# Altium integrated library Altera Arria V GZ.IntLib: 32 symbols (part 31 of 36)
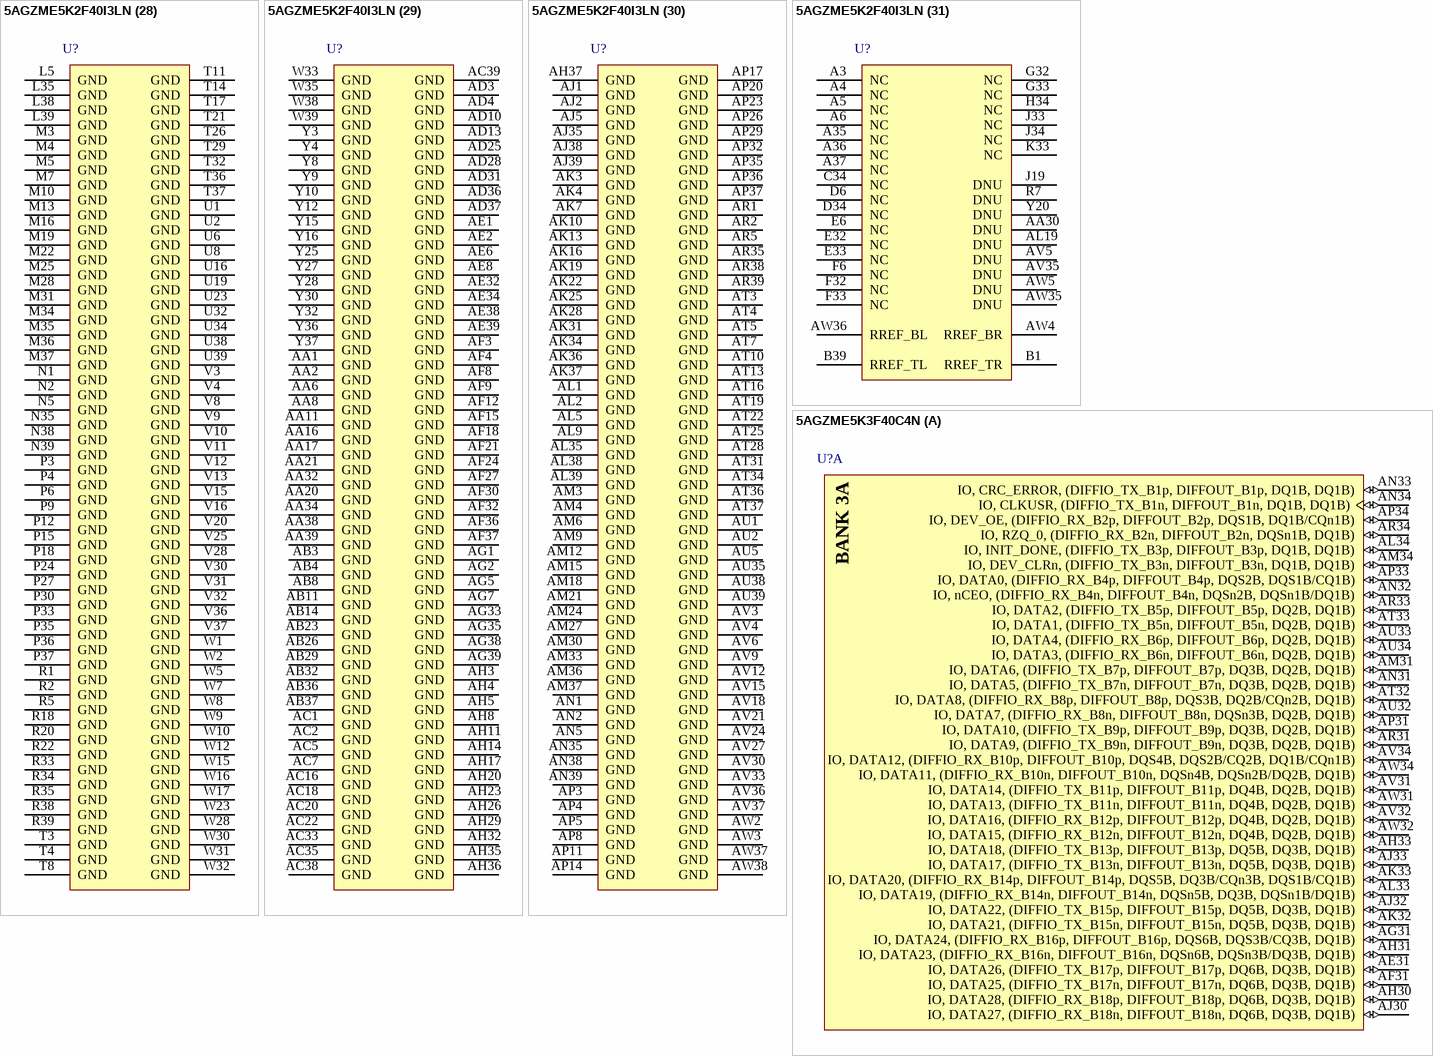
[diagram p227: symbols 5AGZME5K2F40I3LN to 5AGZME5K3F40C4N]
## 5AGZME5K2F40I3LN
designator U?
Arria V GZ Family FPGA, 0.82 to 0.88 V Supply, 674 I/O Pins, 24 PLLs, 1517-Pin FBGA, Speed Grade 3, Industrial Grade, RoHS Compliant; Manufacturer: Altera; Device Group: 5AGZME5; GPIO: 674; Logic Elements (LE) (K): 400; NexusDeviceID: 5AGZME5K2F40I3LN; Pb-Free: TRUE; Speed Grade: 3; DatasheetVersion: Rev. 3.5; PackageVersion: Rev. 2.0, 06/2013; PackageReference: FBGA1517_A-340_D1-330; PackageDescription: 1517-Pin FineLine Ball-Grid Array (FBGA), Body 40 x 40 mm, Pitch 1 mm; Supplier 1: Digi-Key; Supplier Part Number 1: 5AGZME5K2F40I3LN-ND; Supplier 2: Mouser; Supplier Part Number 2: 989-5AGZME5K2F40I3LN; RoHS: RoHS Compliant; Subcategory: Arria V GZ; Voltage Supply: 0.82 to 0.88 V; Mounting Technology: Surface Mount; Code_JEDEC: MS-034; PartNumber: 5AGZME5K2F40I3LN; ComponentLink1Description: Manufacturer URL; ComponentLink1URL: http://www.altera.com; ComponentLink2Description: Datasheet; ComponentLink2URL: http://www.altera.com/literature/hb/arria-v/av_51002.pdf; ComponentLink3Description: Package Specification; ComponentLink3URL: http://www.altera.com/devicepackaging/04R00439-01.pdf; ComponentLink4Description: Device Handbook URL; ComponentLink4URL: http://www.altera.com/literature/hb/arria-v/arriav_handbook.pdf; ComponentLink5Description: Device Overview URL; ComponentLink5URL: http://www.altera.com/literature/hb/arria-v/av_51001.pdf; ComponentLink6Description: Device Pin-Out URL; ComponentLink6URL: http://www.altera.com/literature/dp/arria-v/5AGZME5.xls; ComponentLink7Description: Product URL; ComponentLink7URL: http://www.buyaltera.com/scripts/partsearch.dll?Detail&name=5AGZME5K2F40I3LN-ND
footprint ALTR-FBGA1517_A-340_D1-330 (BGA, 1517-Balls, Body 40x40mm, Pitch 1mm)
part A pins: AE31 IO, DATA26, (DIFFIO_TX_B17p, DIFFOUT_B17p, DQ6B, DQ3B, DQ1B) (io), AF31 IO, DATA25, (DIFFIO_TX_B17n, DIFFOUT_B17n, DQ6B, DQ3B, DQ1B) (io), AG31 IO, DATA24, (DIFFIO_RX_B16p, DIFFOUT_B16p, DQS6B, DQS3B/CQ3B, DQ1B) (io), AH30 IO, DATA28, (DIFFIO_RX_B18p, DIFFOUT_B18p, DQ6B, DQ3B, DQ1B) (io), AH31 IO, DATA23, (DIFFIO_RX_B16n, DIFFOUT_B16n, DQSn6B, DQSn3B/DQ3B, DQ1B) (io), AH33 IO, DATA18, (DIFFIO_TX_B13p, DIFFOUT_B13p, DQ5B, DQ3B, DQ1B) (io), AJ30 IO, DATA27, (DIFFIO_RX_B18n, DIFFOUT_B18n, DQ6B, DQ3B, DQ1B) (io), AJ32 IO, DATA22, (DIFFIO_TX_B15p, DIFFOUT_B15p, DQ5B, DQ3B, DQ1B) (io), AJ33 IO, DATA17, (DIFFIO_TX_B13n, DIFFOUT_B13n, DQ5B, DQ3B, DQ1B) (io), AK32 IO, DATA21, (DIFFIO_TX_B15n, DIFFOUT_B15n, DQ5B, DQ3B, DQ1B) (io), AK33 IO, DATA20, (DIFFIO_RX_B14p, DIFFOUT_B14p, DQS5B, DQ3B/CQn3B, DQS1B/CQ1B) (io), AL33 IO, DATA19, (DIFFIO_RX_B14n, DIFFOUT_B14n, DQSn5B, DQ3B, DQSn1B/DQ1B) (io), AL34 IO, INIT_DONE, (DIFFIO_TX_B3p, DIFFOUT_B3p, DQ1B, DQ1B) (io), AM31 IO, DATA6, (DIFFIO_TX_B7p, DIFFOUT_B7p, DQ3B, DQ2B, DQ1B) (io), AM34 IO, DEV_CLRn, (DIFFIO_TX_B3n, DIFFOUT_B3n, DQ1B, DQ1B) (io), AN31 IO, DATA5, (DIFFIO_TX_B7n, DIFFOUT_B7n, DQ3B, DQ2B, DQ1B) (io), AN32 IO, nCEO, (DIFFIO_RX_B4n, DIFFOUT_B4n, DQSn2B, DQSn1B/DQ1B) (io), AN33 IO, CRC_ERROR, (DIFFIO_TX_B1p, DIFFOUT_B1p, DQ1B, DQ1B) (io), AN34 IO, CLKUSR, (DIFFIO_TX_B1n, DIFFOUT_B1n, DQ1B, DQ1B) (io), AP31 IO, DATA10, (DIFFIO_TX_B9p, DIFFOUT_B9p, DQ3B, DQ2B, DQ1B) (io), AP33 IO, DATA0, (DIFFIO_RX_B4p, DIFFOUT_B4p, DQS2B, DQS1B/CQ1B) (io), AP34 IO, DEV_OE, (DIFFIO_RX_B2p, DIFFOUT_B2p, DQS1B, DQ1B/CQn1B) (io), AR31 IO, DATA9, (DIFFIO_TX_B9n, DIFFOUT_B9n, DQ3B, DQ2B, DQ1B) (io), AR33 IO, DATA2, (DIFFIO_TX_B5p, DIFFOUT_B5p, DQ2B, DQ1B) (io), AR34 IO, RZQ_0, (DIFFIO_RX_B2n, DIFFOUT_B2n, DQSn1B, DQ1B) (io), AT32 IO, DATA8, (DIFFIO_RX_B8p, DIFFOUT_B8p, DQS3B, DQ2B/CQn2B, DQ1B) (io), AT33 IO, DATA1, (DIFFIO_TX_B5n, DIFFOUT_B5n, DQ2B, DQ1B) (io), AU32 IO, DATA7, (DIFFIO_RX_B8n, DIFFOUT_B8n, DQSn3B, DQ2B, DQ1B) (io), AU33 IO, DATA4, (DIFFIO_RX_B6p, DIFFOUT_B6p, DQ2B, DQ1B) (io), AU34 IO, DATA3, (DIFFIO_RX_B6n, DIFFOUT_B6n, DQ2B, DQ1B) (io), AV31 IO, DATA14, (DIFFIO_TX_B11p, DIFFOUT_B11p, DQ4B, DQ2B, DQ1B) (io), AV32 IO, DATA16, (DIFFIO_RX_B12p, DIFFOUT_B12p, DQ4B, DQ2B, DQ1B) (io), AV34 IO, DATA12, (DIFFIO_RX_B10p, DIFFOUT_B10p, DQS4B, DQS2B/CQ2B, DQ1B/CQn1B) (io), AW31 IO, DATA13, (DIFFIO_TX_B11n, DIFFOUT_B11n, DQ4B, DQ2B, DQ1B) (io), AW32 IO, DATA15, (DIFFIO_RX_B12n, DIFFOUT_B12n, DQ4B, DQ2B, DQ1B) (io), AW34 IO, DATA11, (DIFFIO_RX_B10n, DIFFOUT_B10n, DQSn4B, DQSn2B/DQ2B, DQ1B) (io)
part B pins: AA26 IO, (DIFFIO_TX_B37p, DIFFOUT_B37p, DQ13B, DQ7B, DQ3B, DQ1B) (io), AA27 IO, (DIFFIO_TX_B37n, DIFFOUT_B37n, DQ13B, DQ7B, DQ3B, DQ1B) (io), AA28 IO, (DIFFIO_RX_B38p, DIFFOUT_B38p, DQS13B, DQ7B/CQn7B, DQS3B/CQ3B, DQ1B) (io), AA29 IO, (DIFFIO_RX_B38n, DIFFOUT_B38n, DQSn13B, DQ7B, DQSn3B/DQ3B, DQ1B) (io), AB27 IO, (DIFFIO_TX_B39p, DIFFOUT_B39p, DQ13B, DQ7B, DQ3B, DQ1B) (io), AB28 IO, (DIFFIO_TX_B27p, DIFFOUT_B27p, DQ9B, DQ5B, DQ2B, DQ1B) (io), AB30 IO, FPLL_BL_CLKOUT2, FPLL_BL_FBp, FPLL_BL_FB1, (DIFFIO_RX_B26p, DIFFOUT_B26p, DQS9B, DQ5B/CQn5B, DQS2B/CQ2B, DQ1B) (io), AC27 IO, (DIFFIO_TX_B39n, DIFFOUT_B39n, DQ13B, DQ7B, DQ3B, DQ1B) (io), AC28 IO, nPERSTL0, (DIFFIO_TX_B27n, DIFFOUT_B27n, DQ9B, DQ5B, DQ2B, DQ1B) (io), AC30 IO, FPLL_BL_CLKOUT3, FPLL_BL_FBn, (DIFFIO_RX_B26n, DIFFOUT_B26n, DQSn9B, DQ5B, DQSn2B/DQ2B, DQ1B) (io), AD27 IO, (DIFFIO_RX_B40p, DIFFOUT_B40p, DQS14B, DQS7B/CQ7B, DQ3B, DQ1B) (io), AD30 IO, FPLL_BL_CLKOUT0, FPLL_BL_CLKOUTp, FPLL_BL_FB0, (DIFFIO_TX_B25p, DIFFOUT_B25p, DQ9B, DQ5B, DQ2B, DQ1B) (io), AE27 IO, (DIFFIO_RX_B40n, DIFFOUT_B40n, DQSn14B, DQSn7B/DQ7B, DQ3B, DQ1B) (io), AE29 IO, (DIFFIO_TX_B29n, DIFFOUT_B29n, DQ10B, DQ5B, DQ2B, DQ1B) (io), AE30 IO, FPLL_BL_CLKOUT1, FPLL_BL_CLKOUTn, (DIFFIO_TX_B25n, DIFFOUT_B25n, DQ9B, DQ5B, DQ2B, DQ1B) (io), AF28 IO, (DIFFIO_TX_B29p, DIFFOUT_B29p, DQ10B, DQ5B, DQ2B, DQ1B) (io), AF29 IO, CLK2p, (DIFFIO_RX_B28p, DIFFOUT_B28p, DQS10B, DQS5B/CQ5B, DQ2B, DQ1B/CQn1B) (io), AG27 IO, (DIFFIO_TX_B41p, DIFFOUT_B41p, DQ14B, DQ7B, DQ3B, DQ1B) (io), AG28 IO, CLK3p, (DIFFIO_RX_B30p, DIFFOUT_B30p, DQ10B, DQ5B, DQ2B, DQ1B) (io), AG30 IO, CLK2n, (DIFFIO_RX_B28n, DIFFOUT_B28n, DQSn10B, DQSn5B/DQ5B, DQ2B, DQ1B) (io), AH27 IO, (DIFFIO_TX_B41n, DIFFOUT_B41n, DQ14B, DQ7B, DQ3B, DQ1B) (io), AH28 IO, CLK3n, (DIFFIO_RX_B30n, DIFFOUT_B30n, DQ10B, DQ5B, DQ2B, DQ1B) (io), AJ27 IO, (DIFFIO_RX_B42p, DIFFOUT_B42p, DQ14B, DQ7B, DQ3B, DQ1B) (io), AJ29 IO, (DIFFIO_TX_B33n, DIFFOUT_B33n, DQ11B, DQ6B, DQ3B, DQ1B) (io), AK27 IO, (DIFFIO_RX_B42n, DIFFOUT_B42n, DQ14B, DQ7B, DQ3B, DQ1B) (io), AK29 IO, (DIFFIO_TX_B33p, DIFFOUT_B33p, DQ11B, DQ6B, DQ3B, DQ1B) (io), AK30 IO, (DIFFIO_TX_B31p, DIFFOUT_B31p, DQ11B, DQ6B, DQ3B, DQ1B) (io), AL27 IO, (DIFFIO_TX_B35p, DIFFOUT_B35p, DQ12B, DQ6B, DQ3B, DQ1B) (io), AL28 IO, (DIFFIO_TX_B35n, DIFFOUT_B35n, DQ12B, DQ6B, DQ3B, DQ1B) (io), AL29 IO, (DIFFIO_RX_B32p, DIFFOUT_B32p, DQS11B, DQ6B/CQn6B, DQ3B, DQS1B/CQ1B) (io), AL30 IO, (DIFFIO_TX_B31n, DIFFOUT_B31n, DQ11B, DQ6B, DQ3B, DQ1B) (io), AM28 IO, (DIFFIO_RX_B36p, DIFFOUT_B36p, DQ12B, DQ6B, DQ3B, DQ1B) (io), AM29 IO, (DIFFIO_RX_B32n, DIFFOUT_B32n, DQSn11B, DQ6B, DQ3B, DQSn1B/DQ1B) (io), AN28 IO, (DIFFIO_RX_B36n, DIFFOUT_B36n, DQ12B, DQ6B, DQ3B, DQ1B) (io), AN29 IO, PR_READY, (DIFFIO_TX_B21p, DIFFOUT_B21p, DQ7B, DQ4B, DQ2B, DQ1B) (io), AN30 IO, PR_REQUEST, (DIFFIO_TX_B21n, DIFFOUT_B21n, DQ7B, DQ4B, DQ2B, DQ1B) (io), AP28 IO, (DIFFIO_RX_B34p, DIFFOUT_B34p, DQS12B, DQS6B/CQ6B, DQ3B/CQn3B, DQ1B) (io), AP30 IO, DATA30, (DIFFIO_TX_B19p, DIFFOUT_B19p, DQ7B, DQ4B, DQ2B, DQ1B) (io), AR28 IO, (DIFFIO_RX_B34n, DIFFOUT_B34n, DQSn12B, DQSn6B/DQ6B, DQ3B, DQ1B) (io), AR30 IO, DATA29, (DIFFIO_TX_B19n, DIFFOUT_B19n, DQ7B, DQ4B, DQ2B, DQ1B) (io), AT29 IO, CvP_CONFDONE, (DIFFIO_TX_B23p, DIFFOUT_B23p, DQ8B, DQ4B, DQ2B, DQ1B) (io), AT30 IO, PR_DONE, (DIFFIO_RX_B20p, DIFFOUT_B20p, DQS7B, DQ4B/CQn4B, DQ2B, DQ1B) (io), AU29 IO, PR_ERROR, (DIFFIO_TX_B23n, DIFFOUT_B23n, DQ8B, DQ4B, DQ2B, DQ1B) (io), AU30 IO, DATA31, (DIFFIO_RX_B20n, DIFFOUT_B20n, DQSn7B, DQ4B, DQ2B, DQ1B) (io), AV28 IO, CLK1p, (DIFFIO_RX_B24p, DIFFOUT_B24p, DQ8B, DQ4B, DQ2B, DQ1B) (io), AV29 IO, CLK0p, (DIFFIO_RX_B22p, DIFFOUT_B22p, DQS8B, DQS4B/CQ4B, DQ2B/CQn2B, DQ1B) (io), AW28 IO, CLK1n, (DIFFIO_RX_B24n, DIFFOUT_B24n, DQ8B, DQ4B, DQ2B, DQ1B) (io), AW29 IO, CLK0n, (DIFFIO_RX_B22n, DIFFOUT_B22n, DQSn8B, DQSn4B/DQ4B, DQ2B, DQ1B) (io)
part C pins: AA25 IO, (DIFFIO_RX_B50n, DIFFOUT_B50n, DQSn17B, DQ9B, DQSn4B/DQ4B, DQ2B) (io), AB24 IO, (DIFFIO_TX_B61p, DIFFOUT_B61p, DQ21B, DQ11B, DQ5B, DQ2B) (io), AB25 IO, (DIFFIO_RX_B50p, DIFFOUT_B50p, DQS17B, DQ9B/CQn9B, DQS4B/CQ4B, DQ2B) (io), AC24 IO, (DIFFIO_TX_B61n, DIFFOUT_B61n, DQ21B, DQ11B, DQ5B, DQ2B) (io), AC25 IO, (DIFFIO_TX_B51p, DIFFOUT_B51p, DQ17B, DQ9B, DQ4B, DQ2B) (io), AC26 IO, (DIFFIO_TX_B51n, DIFFOUT_B51n, DQ17B, DQ9B, DQ4B, DQ2B) (io), AD24 IO, (DIFFIO_TX_B63p, DIFFOUT_B63p, DQ21B, DQ11B, DQ5B, DQ2B) (io), AD26 IO, (DIFFIO_TX_B49p, DIFFOUT_B49p, DQ17B, DQ9B, DQ4B, DQ2B) (io), AE24 IO, (DIFFIO_TX_B63n, DIFFOUT_B63n, DQ21B, DQ11B, DQ5B, DQ2B) (io), AE25 IO, (DIFFIO_RX_B62p, DIFFOUT_B62p, DQS21B, DQ11B/CQn11B, DQS5B/CQ5B, DQ2B) (io), AE26 IO, (DIFFIO_TX_B49n, DIFFOUT_B49n, DQ17B, DQ9B, DQ4B, DQ2B) (io), AF25 IO, (DIFFIO_RX_B62n, DIFFOUT_B62n, DQSn21B, DQ11B, DQSn5B/DQ5B, DQ2B) (io), AF26 IO, (DIFFIO_TX_B53p, DIFFOUT_B53p, DQ18B, DQ9B, DQ4B, DQ2B) (io), AG24 IO, (DIFFIO_RX_B64n, DIFFOUT_B64n, DQSn22B, DQSn11B/DQ11B, DQ5B, DQ2B) (io), AG25 IO, (DIFFIO_RX_B54p, DIFFOUT_B54p, DQ18B, DQ9B, DQ4B, DQ2B) (io), AG26 IO, (DIFFIO_TX_B53n, DIFFOUT_B53n, DQ18B, DQ9B, DQ4B, DQ2B) (io), AH24 IO, (DIFFIO_RX_B64p, DIFFOUT_B64p, DQS22B, DQS11B/CQ11B, DQ5B, DQ2B) (io), AH25 IO, (DIFFIO_RX_B54n, DIFFOUT_B54n, DQ18B, DQ9B, DQ4B, DQ2B) (io), AJ24 IO, (DIFFIO_TX_B65p, DIFFOUT_B65p, DQ22B, DQ11B, DQ5B, DQ2B) (io), AJ26 IO, (DIFFIO_RX_B52p, DIFFOUT_B52p, DQS18B, DQS9B/CQ9B, DQ4B, DQ2B/CQn2B) (io), AK24 IO, (DIFFIO_TX_B65n, DIFFOUT_B65n, DQ22B, DQ11B, DQ5B, DQ2B) (io), AK26 IO, (DIFFIO_RX_B52n, DIFFOUT_B52n, DQSn18B, DQSn9B/DQ9B, DQ4B, DQ2B) (io), AL24 IO, (DIFFIO_RX_B66n, DIFFOUT_B66n, DQ22B, DQ11B, DQ5B, DQ2B) (io), AL25 IO, (DIFFIO_RX_B66p, DIFFOUT_B66p, DQ22B, DQ11B, DQ5B, DQ2B) (io), AL26 IO, (DIFFIO_TX_B47p, DIFFOUT_B47p, DQ16B, DQ8B, DQ4B, DQ2B) (io), AM25 IO, (DIFFIO_TX_B59p, DIFFOUT_B59p, DQ20B, DQ10B, DQ5B, DQ2B) (io), AM26 IO, (DIFFIO_TX_B47n, DIFFOUT_B47n, DQ16B, DQ8B, DQ4B, DQ2B) (io), AN24 IO, (DIFFIO_RX_B60p, DIFFOUT_B60p, DQ20B, DQ10B, DQ5B, DQ2B) (io), AN25 IO, (DIFFIO_TX_B59n, DIFFOUT_B59n, DQ20B, DQ10B, DQ5B, DQ2B) (io), AN26 IO, (DIFFIO_RX_B48p, DIFFOUT_B48p, DQ16B, DQ8B, DQ4B, DQ2B) (io), AN27 IO, (DIFFIO_RX_B48n, DIFFOUT_B48n, DQ16B, DQ8B, DQ4B, DQ2B) (io), AP24 IO, (DIFFIO_RX_B60n, DIFFOUT_B60n, DQ20B, DQ10B, DQ5B, DQ2B) (io), AP25 IO, (DIFFIO_RX_B58p, DIFFOUT_B58p, DQS20B, DQS10B/CQ10B, DQ5B/CQn5B, DQ2B) (io), AP27 IO, (DIFFIO_RX_B46p, DIFFOUT_B46p, DQS16B, DQS8B/CQ8B, DQ4B/CQn4B, DQ2B) (io), AR24 IO, (DIFFIO_TX_B57p, DIFFOUT_B57p, DQ19B, DQ10B, DQ5B, DQ2B) (io), AR25 IO, (DIFFIO_RX_B58n, DIFFOUT_B58n, DQSn20B, DQSn10B/DQ10B, DQ5B, DQ2B) (io), AR27 IO, (DIFFIO_RX_B46n, DIFFOUT_B46n, DQSn16B, DQSn8B/DQ8B, DQ4B, DQ2B) (io), AT24 IO, (DIFFIO_TX_B57n, DIFFOUT_B57n, DQ19B, DQ10B, DQ5B, DQ2B) (io), AT26 IO, (DIFFIO_TX_B45p, DIFFOUT_B45p, DQ15B, DQ8B, DQ4B, DQ2B) (io), AT27 IO, (DIFFIO_TX_B43p, DIFFOUT_B43p, DQ15B, DQ8B, DQ4B, DQ2B) (io), AU24 IO, (DIFFIO_RX_B56p, DIFFOUT_B56p, DQS19B, DQ10B/CQn10B, DQ5B, DQS2B/CQ2B) (io), AU25 IO, (DIFFIO_RX_B56n, DIFFOUT_B56n, DQSn19B, DQ10B, DQ5B, DQSn2B/DQ2B) (io), AU26 IO, (DIFFIO_TX_B45n, DIFFOUT_B45n, DQ15B, DQ8B, DQ4B, DQ2B) (io), AU27 IO, (DIFFIO_TX_B43n, DIFFOUT_B43n, DQ15B, DQ8B, DQ4B, DQ2B) (io), AV25 IO, (DIFFIO_TX_B55p, DIFFOUT_B55p, DQ19B, DQ10B, DQ5B, DQ2B) (io), AV26 IO, (DIFFIO_RX_B44p, DIFFOUT_B44p, DQS15B, DQ8B/CQn8B, DQ4B, DQ2B) (io), AW25 IO, (DIFFIO_TX_B55n, DIFFOUT_B55n, DQ19B, DQ10B, DQ5B, DQ2B) (io), AW26 IO, (DIFFIO_RX_B44n, DIFFOUT_B44n, DQSn15B, DQ8B, DQ4B, DQ2B) (io)
part D pins: AD20 IO, (DIFFIO_TX_B85p, DIFFOUT_B85p, DQ29B, DQ15B, DQ7B, DQ3B) (io), AD21 IO, (DIFFIO_TX_B85n, DIFFOUT_B85n, DQ29B, DQ15B, DQ7B, DQ3B) (io), AD22 IO, (DIFFIO_TX_B75p, DIFFOUT_B75p, DQ25B, DQ13B, DQ6B, DQ3B) (io), AD23 IO, (DIFFIO_TX_B73p, DIFFOUT_B73p, DQ25B, DQ13B, DQ6B, DQ3B) (io), AE20 IO, (DIFFIO_TX_B87p, DIFFOUT_B87p, DQ29B, DQ15B, DQ7B, DQ3B) (io), AE21 IO, (DIFFIO_TX_B87n, DIFFOUT_B87n, DQ29B, DQ15B, DQ7B, DQ3B) (io), AE22 IO, (DIFFIO_TX_B75n, DIFFOUT_B75n, DQ25B, DQ13B, DQ6B, DQ3B) (io), AE23 IO, (DIFFIO_TX_B73n, DIFFOUT_B73n, DQ25B, DQ13B, DQ6B, DQ3B) (io), AF22 IO, (DIFFIO_TX_B77p, DIFFOUT_B77p, DQ26B, DQ13B, DQ6B, DQ3B) (io), AF23 IO, (DIFFIO_RX_B74p, DIFFOUT_B74p, DQS25B, DQ13B/CQn13B, DQS6B/CQ6B, DQ3B) (io), AG21 IO, (DIFFIO_RX_B86n, DIFFOUT_B86n, DQSn29B, DQ15B, DQSn7B/DQ7B, DQ3B) (io), AG22 IO, (DIFFIO_TX_B77n, DIFFOUT_B77n, DQ26B, DQ13B, DQ6B, DQ3B) (io), AG23 IO, (DIFFIO_RX_B74n, DIFFOUT_B74n, DQSn25B, DQ13B, DQSn6B/DQ6B, DQ3B) (io), AH21 IO, (DIFFIO_RX_B86p, DIFFOUT_B86p, DQS29B, DQ15B/CQn15B, DQS7B/CQ7B, DQ3B) (io), AH22 IO, CLK4p, (DIFFIO_RX_B76p, DIFFOUT_B76p, DQS26B, DQS13B/CQ13B, DQ6B, DQ3B/CQn3B) (io), AJ20 IO, (DIFFIO_TX_B89p, DIFFOUT_B89p, DQ30B, DQ15B, DQ7B, DQ3B) (io), AJ21 IO, (DIFFIO_TX_B89n, DIFFOUT_B89n, DQ30B, DQ15B, DQ7B, DQ3B) (io), AJ22 IO, CLK4n, (DIFFIO_RX_B76n, DIFFOUT_B76n, DQSn26B, DQSn13B/DQ13B, DQ6B, DQ3B) (io), AK21 IO, (DIFFIO_RX_B88p, DIFFOUT_B88p, DQS30B, DQS15B/CQ15B, DQ7B, DQ3B) (io), AK23 IO, CLK5p, (DIFFIO_RX_B78p, DIFFOUT_B78p, DQ26B, DQ13B, DQ6B, DQ3B) (io), AL20 IO, (DIFFIO_RX_B90p, DIFFOUT_B90p, DQ30B, DQ15B, DQ7B, DQ3B) (io), AL21 IO, (DIFFIO_RX_B90n, DIFFOUT_B90n, DQ30B, DQ15B, DQ7B, DQ3B) (io), AL22 IO, (DIFFIO_RX_B88n, DIFFOUT_B88n, DQSn30B, DQSn15B/DQ15B, DQ7B, DQ3B) (io), AL23 IO, CLK5n, (DIFFIO_RX_B78n, DIFFOUT_B78n, DQ26B, DQ13B, DQ6B, DQ3B) (io), AM20 IO, (DIFFIO_TX_B83n, DIFFOUT_B83n, DQ28B, DQ14B, DQ7B, DQ3B) (io), AM22 IO, (DIFFIO_TX_B71p, DIFFOUT_B71p, DQ24B, DQ12B, DQ6B, DQ3B) (io), AM23 IO, (DIFFIO_RX_B72p, DIFFOUT_B72p, DQ24B, DQ12B, DQ6B, DQ3B) (io), AN20 IO, (DIFFIO_TX_B83p, DIFFOUT_B83p, DQ28B, DQ14B, DQ7B, DQ3B) (io), AN21 IO, (DIFFIO_RX_B84p, DIFFOUT_B84p, DQ28B, DQ14B, DQ7B, DQ3B) (io), AN22 IO, (DIFFIO_TX_B71n, DIFFOUT_B71n, DQ24B, DQ12B, DQ6B, DQ3B) (io), AN23 IO, (DIFFIO_RX_B72n, DIFFOUT_B72n, DQ24B, DQ12B, DQ6B, DQ3B) (io), AP21 IO, (DIFFIO_RX_B84n, DIFFOUT_B84n, DQ28B, DQ14B, DQ7B, DQ3B) (io), AP22 IO, (DIFFIO_RX_B70p, DIFFOUT_B70p, DQS24B, DQS12B/CQ12B, DQ6B/CQn6B, DQ3B) (io), AR20 IO, (DIFFIO_RX_B82p, DIFFOUT_B82p, DQS28B, DQS14B/CQ14B, DQ7B/CQn7B, DQ3B) (io), AR21 IO, (DIFFIO_RX_B82n, DIFFOUT_B82n, DQSn28B, DQSn14B/DQ14B, DQ7B, DQ3B) (io), AR22 IO, (DIFFIO_RX_B70n, DIFFOUT_B70n, DQSn24B, DQSn12B/DQ12B, DQ6B, DQ3B) (io), AT20 IO, (DIFFIO_TX_B81p, DIFFOUT_B81p, DQ27B, DQ14B, DQ7B, DQ3B) (io), AT21 IO, (DIFFIO_RX_B80p, DIFFOUT_B80p, DQS27B, DQ14B/CQn14B, DQ7B, DQS3B/CQ3B) (io), AT23 IO, (DIFFIO_TX_B69p, DIFFOUT_B69p, DQ23B, DQ12B, DQ6B, DQ3B) (io), AU20 IO, (DIFFIO_TX_B81n, DIFFOUT_B81n, DQ27B, DQ14B, DQ7B, DQ3B) (io), AU21 IO, (DIFFIO_RX_B80n, DIFFOUT_B80n, DQSn27B, DQ14B, DQ7B, DQSn3B/DQ3B) (io), AU23 IO, (DIFFIO_TX_B69n, DIFFOUT_B69n, DQ23B, DQ12B, DQ6B, DQ3B) (io), AV20 IO, (DIFFIO_TX_B79p, DIFFOUT_B79p, DQ27B, DQ14B, DQ7B, DQ3B) (io), AV22 IO, (DIFFIO_RX_B68p, DIFFOUT_B68p, DQS23B, DQ12B/CQn12B, DQ6B, DQ3B) (io), AV23 IO, (DIFFIO_TX_B67p, DIFFOUT_B67p, DQ23B, DQ12B, DQ6B, DQ3B) (io), AW20 IO, (DIFFIO_TX_B79n, DIFFOUT_B79n, DQ27B, DQ14B, DQ7B, DQ3B) (io), AW22 IO, (DIFFIO_RX_B68n, DIFFOUT_B68n, DQSn23B, DQ12B, DQ6B, DQ3B) (io), AW23 IO, (DIFFIO_TX_B67n, DIFFOUT_B67n, DQ23B, DQ12B, DQ6B, DQ3B) (io)
part E pins: AJ6 IO, (DIFFIO_TX_B209p, DIFFOUT_B209p, DQ70B, DQ29B, DQ14B) (io), AJ7 IO, (DIFFIO_TX_B209n, DIFFOUT_B209n, DQ70B, DQ29B, DQ14B) (io), AK6 IO, RZQ_1, (DIFFIO_RX_B210p, DIFFOUT_B210p, DQ70B, DQ29B, DQ14B) (io), AL6 IO, (DIFFIO_RX_B210n, DIFFOUT_B210n, DQ70B, DQ29B, DQ14B) (io), AL7 IO, CLK8p, (DIFFIO_RX_B208p, DIFFOUT_B208p, DQS70B, DQS29B/CQ29B, DQ14B) (io), AM7 IO, CLK8n, (DIFFIO_RX_B208n, DIFFOUT_B208n, DQSn70B, DQSn29B/DQ29B, DQ14B) (io), AM8 IO, (DIFFIO_TX_B207n, DIFFOUT_B207n, DQ69B, DQ29B, DQ14B) (io), AN6 IO, CLK9p, (DIFFIO_RX_B206p, DIFFOUT_B206p, DQS69B, DQ29B/CQn29B, DQS14B/CQ14B) (io), AN7 IO, CLK9n, (DIFFIO_RX_B206n, DIFFOUT_B206n, DQSn69B, DQ29B, DQSn14B/DQ14B) (io), AN8 IO, (DIFFIO_TX_B207p, DIFFOUT_B207p, DQ69B, DQ29B, DQ14B) (io), AP6 IO, (DIFFIO_TX_B205p, DIFFOUT_B205p, DQ69B, DQ29B, DQ14B) (io), AP7 IO, FPLL_BR_CLKOUT2, FPLL_BR_FBp, FPLL_BR_FB1, (DIFFIO_RX_B204p, DIFFOUT_B204p, DQ68B, DQ28B, DQ14B) (io), AR6 IO, (DIFFIO_TX_B205n, DIFFOUT_B205n, DQ69B, DQ29B, DQ14B) (io), AR7 IO, FPLL_BR_CLKOUT3, FPLL_BR_FBn, (DIFFIO_RX_B204n, DIFFOUT_B204n, DQ68B, DQ28B, DQ14B) (io), AR8 IO, CLK10p, (DIFFIO_RX_B202p, DIFFOUT_B202p, DQS68B, DQS28B/CQ28B, DQ14B/CQn14B) (io), AT6 IO, FPLL_BR_CLKOUT0, FPLL_BR_CLKOUTp, FPLL_BR_FB0, (DIFFIO_TX_B203p, DIFFOUT_B203p, DQ68B, DQ28B, DQ14B) (io), AT8 IO, CLK10n, (DIFFIO_RX_B202n, DIFFOUT_B202n, DQSn68B, DQSn28B/DQ28B, DQ14B) (io), AU6 IO, FPLL_BR_CLKOUT1, FPLL_BR_CLKOUTn, (DIFFIO_TX_B203n, DIFFOUT_B203n, DQ68B, DQ28B, DQ14B) (io), AU7 IO, (DIFFIO_TX_B201p, DIFFOUT_B201p, DQ67B, DQ28B, DQ14B) (io), AU8 IO, (DIFFIO_TX_B201n, DIFFOUT_B201n, DQ67B, DQ28B, DQ14B) (io), AV7 IO, CLK11p, (DIFFIO_RX_B200p, DIFFOUT_B200p, DQS67B, DQ28B/CQn28B, DQ14B) (io), AV8 IO, (DIFFIO_TX_B199p, DIFFOUT_B199p, DQ67B, DQ28B, DQ14B) (io), AW7 IO, CLK11n, (DIFFIO_RX_B200n, DIFFOUT_B200n, DQSn67B, DQ28B, DQ14B) (io), AW8 IO, (DIFFIO_TX_B199n, DIFFOUT_B199n, DQ67B, DQ28B, DQ14B) (io)
part F pins: AB9 IO, (DIFFIO_TX_B187p, DIFFOUT_B187p, DQ63B, DQ26B, DQ13B, DQ6B) (io), AB10 IO, (DIFFIO_RX_B188p, DIFFOUT_B188p, DQS63B, DQ26B/CQn26B, DQ13B, DQS6B/CQ6B) (io), AB12 IO, (DIFFIO_TX_B175p, DIFFOUT_B175p, DQ59B, DQ24B, DQ12B, DQ6B) (io), AC9 IO, (DIFFIO_TX_B187n, DIFFOUT_B187n, DQ63B, DQ26B, DQ13B, DQ6B) (io), AC10 IO, (DIFFIO_RX_B188n, DIFFOUT_B188n, DQSn63B, DQ26B, DQ13B, DQSn6B/DQ6B) (io), AC12 IO, (DIFFIO_TX_B175n, DIFFOUT_B175n, DQ59B, DQ24B, DQ12B, DQ6B) (io), AD9 IO, (DIFFIO_TX_B189p, DIFFOUT_B189p, DQ63B, DQ26B, DQ13B, DQ6B) (io), AD12 IO, (DIFFIO_RX_B176p, DIFFOUT_B176p, DQS59B, DQ24B/CQn24B, DQ12B, DQ6B) (io), AE9 IO, (DIFFIO_TX_B189n, DIFFOUT_B189n, DQ63B, DQ26B, DQ13B, DQ6B) (io), AE10 IO, (DIFFIO_TX_B177p, DIFFOUT_B177p, DQ59B, DQ24B, DQ12B, DQ6B) (io), AE11 IO, (DIFFIO_TX_B177n, DIFFOUT_B177n, DQ59B, DQ24B, DQ12B, DQ6B) (io), AE12 IO, (DIFFIO_RX_B176n, DIFFOUT_B176n, DQSn59B, DQ24B, DQ12B, DQ6B) (io), AF10 IO, (DIFFIO_RX_B190p, DIFFOUT_B190p, DQS64B, DQS26B/CQ26B, DQ13B/CQn13B, DQ6B) (io), AF11 IO, (DIFFIO_TX_B179n, DIFFOUT_B179n, DQ60B, DQ24B, DQ12B, DQ6B) (io), AG9 IO, (DIFFIO_TX_B191p, DIFFOUT_B191p, DQ64B, DQ26B, DQ13B, DQ6B) (io), AG10 IO, (DIFFIO_RX_B190n, DIFFOUT_B190n, DQSn64B, DQSn26B/DQ26B, DQ13B, DQ6B) (io), AG12 IO, (DIFFIO_TX_B179p, DIFFOUT_B179p, DQ60B, DQ24B, DQ12B, DQ6B) (io), AH9 IO, (DIFFIO_TX_B191n, DIFFOUT_B191n, DQ64B, DQ26B, DQ13B, DQ6B) (io), AH10 IO, (DIFFIO_RX_B192p, DIFFOUT_B192p, DQ64B, DQ26B, DQ13B, DQ6B) (io), AH12 IO, (DIFFIO_RX_B178p, DIFFOUT_B178p, DQS60B, DQS24B/CQ24B, DQ12B/CQn12B, DQ6B) (io), AJ10 IO, (DIFFIO_RX_B192n, DIFFOUT_B192n, DQ64B, DQ26B, DQ13B, DQ6B) (io), AJ12 IO, (DIFFIO_RX_B178n, DIFFOUT_B178n, DQSn60B, DQSn24B/DQ24B, DQ12B, DQ6B) (io), AK11 IO, (DIFFIO_TX_B181p, DIFFOUT_B181p, DQ61B, DQ25B, DQ12B, DQ6B) (io), AK12 IO, (DIFFIO_RX_B180n, DIFFOUT_B180n, DQ60B, DQ24B, DQ12B, DQ6B) (io), AL10 IO, (DIFFIO_TX_B193p, DIFFOUT_B193p, DQ65B, DQ27B, DQ13B, DQ6B) (io), AL11 IO, (DIFFIO_TX_B181n, DIFFOUT_B181n, DQ61B, DQ25B, DQ12B, DQ6B) (io), AL12 IO, (DIFFIO_RX_B180p, DIFFOUT_B180p, DQ60B, DQ24B, DQ12B, DQ6B) (io), AM10 IO, (DIFFIO_TX_B193n, DIFFOUT_B193n, DQ65B, DQ27B, DQ13B, DQ6B) (io), AM11 IO, (DIFFIO_TX_B183p, DIFFOUT_B183p, DQ61B, DQ25B, DQ12B, DQ6B) (io), AN9 IO, (DIFFIO_TX_B195p, DIFFOUT_B195p, DQ65B, DQ27B, DQ13B, DQ6B) (io), AN10 IO, (DIFFIO_RX_B194p, DIFFOUT_B194p, DQS65B, DQ27B/CQn27B, DQS13B/CQ13B, DQ6B) (io), AN11 IO, (DIFFIO_TX_B183n, DIFFOUT_B183n, DQ61B, DQ25B, DQ12B, DQ6B) (io), AP9 IO, (DIFFIO_TX_B195n, DIFFOUT_B195n, DQ65B, DQ27B, DQ13B, DQ6B) (io), AP10 IO, (DIFFIO_RX_B194n, DIFFOUT_B194n, DQSn65B, DQ27B, DQSn13B/DQ13B, DQ6B) (io), AR9 IO, (DIFFIO_TX_B197p, DIFFOUT_B197p, DQ66B, DQ27B, DQ13B, DQ6B) (io), AR11 IO, (DIFFIO_RX_B182p, DIFFOUT_B182p, DQS61B, DQ25B/CQn25B, DQS12B/CQ12B, DQ6B) (io), AR12 IO, (DIFFIO_RX_B182n, DIFFOUT_B182n, DQSn61B, DQ25B, DQSn12B/DQ12B, DQ6B) (io), AT9 IO, (DIFFIO_TX_B197n, DIFFOUT_B197n, DQ66B, DQ27B, DQ13B, DQ6B) (io), AT11 IO, (DIFFIO_TX_B185p, DIFFOUT_B185p, DQ62B, DQ25B, DQ12B, DQ6B) (io), AT12 IO, (DIFFIO_RX_B184p, DIFFOUT_B184p, DQS62B, DQS25B/CQ25B, DQ12B, DQ6B/CQn6B) (io), AU9 IO, (DIFFIO_RX_B198p, DIFFOUT_B198p, DQ66B, DQ27B, DQ13B, DQ6B) (io), AU10 IO, (DIFFIO_RX_B198n, DIFFOUT_B198n, DQ66B, DQ27B, DQ13B, DQ6B) (io), AU11 IO, (DIFFIO_TX_B185n, DIFFOUT_B185n, DQ62B, DQ25B, DQ12B, DQ6B) (io), AU12 IO, (DIFFIO_RX_B184n, DIFFOUT_B184n, DQSn62B, DQSn25B/DQ25B, DQ12B, DQ6B) (io), AV10 IO, (DIFFIO_RX_B196p, DIFFOUT_B196p, DQS66B, DQS27B/CQ27B, DQ13B, DQ6B) (io), AV11 IO, (DIFFIO_RX_B186p, DIFFOUT_B186p, DQ62B, DQ25B, DQ12B, DQ6B) (io), AW10 IO, (DIFFIO_RX_B196n, DIFFOUT_B196n, DQSn66B, DQSn27B/DQ27B, DQ13B, DQ6B) (io), AW11 IO, (DIFFIO_RX_B186n, DIFFOUT_B186n, DQ62B, DQ25B, DQ12B, DQ6B) (io)
part G pins: AA12 IO, (DIFFIO_TX_B165p, DIFFOUT_B165p, DQ55B, DQ22B, DQ11B, DQ5B) (io), AA13 IO, (DIFFIO_TX_B165n, DIFFOUT_B165n, DQ55B, DQ22B, DQ11B, DQ5B) (io), AA14 IO, (DIFFIO_TX_B153p, DIFFOUT_B153p, DQ51B, DQ20B, DQ10B, DQ5B) (io), AA15 IO, (DIFFIO_TX_B153n, DIFFOUT_B153n, DQ51B, DQ20B, DQ10B, DQ5B) (io), AB13 IO, (DIFFIO_TX_B163p, DIFFOUT_B163p, DQ55B, DQ22B, DQ11B, DQ5B) (io), AB15 IO, (DIFFIO_TX_B151n, DIFFOUT_B151n, DQ51B, DQ20B, DQ10B, DQ5B) (io), AB16 IO, (DIFFIO_TX_B151p, DIFFOUT_B151p, DQ51B, DQ20B, DQ10B, DQ5B) (io), AC13 IO, (DIFFIO_TX_B163n, DIFFOUT_B163n, DQ55B, DQ22B, DQ11B, DQ5B) (io), AC14 IO, (DIFFIO_RX_B164p, DIFFOUT_B164p, DQS55B, DQ22B/CQn22B, DQ11B, DQS5B/CQ5B) (io), AC15 IO, (DIFFIO_RX_B152p, DIFFOUT_B152p, DQS51B, DQ20B/CQn20B, DQ10B, DQ5B) (io), AD14 IO, (DIFFIO_RX_B164n, DIFFOUT_B164n, DQSn55B, DQ22B, DQ11B, DQSn5B/DQ5B) (io), AD15 IO, (DIFFIO_RX_B154p, DIFFOUT_B154p, DQS52B, DQS20B/CQ20B, DQ10B/CQn10B, DQ5B) (io), AD16 IO, (DIFFIO_RX_B152n, DIFFOUT_B152n, DQSn51B, DQ20B, DQ10B, DQ5B) (io), AE14 IO, (DIFFIO_RX_B166p, DIFFOUT_B166p, DQS56B, DQS22B/CQ22B, DQ11B/CQn11B, DQ5B) (io), AE15 IO, (DIFFIO_RX_B154n, DIFFOUT_B154n, DQSn52B, DQSn20B/DQ20B, DQ10B, DQ5B) (io), AF13 IO, (DIFFIO_RX_B168p, DIFFOUT_B168p, DQ56B, DQ22B, DQ11B, DQ5B) (io), AF14 IO, (DIFFIO_RX_B166n, DIFFOUT_B166n, DQSn56B, DQSn22B/DQ22B, DQ11B, DQ5B) (io), AG13 IO, (DIFFIO_RX_B168n, DIFFOUT_B168n, DQ56B, DQ22B, DQ11B, DQ5B) (io), AG14 IO, (DIFFIO_RX_B156n, DIFFOUT_B156n, DQ52B, DQ20B, DQ10B, DQ5B) (io), AG15 IO, (DIFFIO_RX_B156p, DIFFOUT_B156p, DQ52B, DQ20B, DQ10B, DQ5B) (io), AH13 IO, (DIFFIO_TX_B167p, DIFFOUT_B167p, DQ56B, DQ22B, DQ11B, DQ5B) (io), AH15 IO, (DIFFIO_TX_B155p, DIFFOUT_B155p, DQ52B, DQ20B, DQ10B, DQ5B) (io), AJ13 IO, (DIFFIO_TX_B167n, DIFFOUT_B167n, DQ56B, DQ22B, DQ11B, DQ5B) (io), AJ15 IO, (DIFFIO_TX_B155n, DIFFOUT_B155n, DQ52B, DQ20B, DQ10B, DQ5B) (io), AK14 IO, (DIFFIO_RX_B158p, DIFFOUT_B158p, DQS53B, DQ21B/CQn21B, DQS10B/CQ10B, DQ5B) (io), AK15 IO, (DIFFIO_TX_B157p, DIFFOUT_B157p, DQ53B, DQ21B, DQ10B, DQ5B) (io), AL13 IO, (DIFFIO_TX_B169p, DIFFOUT_B169p, DQ57B, DQ23B, DQ11B, DQ5B) (io), AL14 IO, (DIFFIO_RX_B158n, DIFFOUT_B158n, DQSn53B, DQ21B, DQSn10B/DQ10B, DQ5B) (io), AL15 IO, (DIFFIO_TX_B157n, DIFFOUT_B157n, DQ53B, DQ21B, DQ10B, DQ5B) (io), AM13 IO, (DIFFIO_TX_B169n, DIFFOUT_B169n, DQ57B, DQ23B, DQ11B, DQ5B) (io), AM14 IO, (DIFFIO_TX_B159p, DIFFOUT_B159p, DQ53B, DQ21B, DQ10B, DQ5B) (io), AN12 IO, (DIFFIO_RX_B170p, DIFFOUT_B170p, DQS57B, DQ23B/CQn23B, DQS11B/CQ11B, DQ5B) (io), AN13 IO, (DIFFIO_TX_B171p, DIFFOUT_B171p, DQ57B, DQ23B, DQ11B, DQ5B) (io), AN14 IO, (DIFFIO_TX_B159n, DIFFOUT_B159n, DQ53B, DQ21B, DQ10B, DQ5B) (io), AN15 IO, (DIFFIO_RX_B160p, DIFFOUT_B160p, DQS54B, DQS21B/CQ21B, DQ10B, DQ5B/CQn5B) (io), AP12 IO, (DIFFIO_RX_B170n, DIFFOUT_B170n, DQSn57B, DQ23B, DQSn11B/DQ11B, DQ5B) (io), AP13 IO, (DIFFIO_TX_B171n, DIFFOUT_B171n, DQ57B, DQ23B, DQ11B, DQ5B) (io), AP15 IO, (DIFFIO_RX_B160n, DIFFOUT_B160n, DQSn54B, DQSn21B/DQ21B, DQ10B, DQ5B) (io), AR14 IO, (DIFFIO_TX_B161p, DIFFOUT_B161p, DQ54B, DQ21B, DQ10B, DQ5B) (io), AR15 IO, (DIFFIO_TX_B161n, DIFFOUT_B161n, DQ54B, DQ21B, DQ10B, DQ5B) (io), AT14 IO, (DIFFIO_RX_B172p, DIFFOUT_B172p, DQS58B, DQS23B/CQ23B, DQ11B, DQ5B) (io), AT15 IO, (DIFFIO_RX_B162p, DIFFOUT_B162p, DQ54B, DQ21B, DQ10B, DQ5B) (io), AU14 IO, (DIFFIO_RX_B172n, DIFFOUT_B172n, DQSn58B, DQSn23B/DQ23B, DQ11B, DQ5B) (io), AU15 IO, (DIFFIO_RX_B162n, DIFFOUT_B162n, DQ54B, DQ21B, DQ10B, DQ5B) (io), AV13 IO, (DIFFIO_RX_B174p, DIFFOUT_B174p, DQ58B, DQ23B, DQ11B, DQ5B) (io), AV14 IO, (DIFFIO_TX_B173p, DIFFOUT_B173p, DQ58B, DQ23B, DQ11B, DQ5B) (io), AW13 IO, (DIFFIO_RX_B174n, DIFFOUT_B174n, DQ58B, DQ23B, DQ11B, DQ5B) (io), AW14 IO, (DIFFIO_TX_B173n, DIFFOUT_B173n, DQ58B, DQ23B, DQ11B, DQ5B) (io)
part H pins: AD17 IO, (DIFFIO_RX_B132n, DIFFOUT_B132n, DQ44B, DQ16B, DQ8B, DQ4B) (io), AD18 IO, (DIFFIO_RX_B132p, DIFFOUT_B132p, DQ44B, DQ16B, DQ8B, DQ4B) (io), AE16 IO, CLK7n, (DIFFIO_RX_B144n, DIFFOUT_B144n, DQ48B, DQ18B, DQ9B, DQ4B) (io), AE17 IO, CLK7p, (DIFFIO_RX_B144p, DIFFOUT_B144p, DQ48B, DQ18B, DQ9B, DQ4B) (io), AE18 IO, (DIFFIO_TX_B131p, DIFFOUT_B131p, DQ44B, DQ16B, DQ8B, DQ4B) (io), AE19 IO, (DIFFIO_TX_B131n, DIFFOUT_B131n, DQ44B, DQ16B, DQ8B, DQ4B) (io), AF16 IO, (DIFFIO_TX_B143p, DIFFOUT_B143p, DQ48B, DQ18B, DQ9B, DQ4B) (io), AF17 IO, CLK6p, (DIFFIO_RX_B142p, DIFFOUT_B142p, DQS48B, DQS18B/CQ18B, DQ9B/CQn9B, DQ4B) (io), AF19 IO, (DIFFIO_RX_B130p, DIFFOUT_B130p, DQS44B, DQS16B/CQ16B, DQ8B/CQn8B, DQ4B) (io), AG16 IO, (DIFFIO_TX_B143n, DIFFOUT_B143n, DQ48B, DQ18B, DQ9B, DQ4B) (io), AG17 IO, CLK6n, (DIFFIO_RX_B142n, DIFFOUT_B142n, DQSn48B, DQSn18B/DQ18B, DQ9B, DQ4B) (io), AG18 IO, (DIFFIO_RX_B130n, DIFFOUT_B130n, DQSn44B, DQSn16B/DQ16B, DQ8B, DQ4B) (io), AG19 IO, (DIFFIO_TX_B127p, DIFFOUT_B127p, DQ43B, DQ16B, DQ8B, DQ4B) (io), AH16 IO, FPLL_BC_CLKOUT0, FPLL_BC_CLKOUTp, FPLL_BC_FB0, (DIFFIO_TX_B139p, DIFFOUT_B139p, DQ47B, DQ18B, DQ9B, DQ4B) (io), AH18 IO, (DIFFIO_TX_B129p, DIFFOUT_B129p, DQ43B, DQ16B, DQ8B, DQ4B) (io), AH19 IO, (DIFFIO_TX_B127n, DIFFOUT_B127n, DQ43B, DQ16B, DQ8B, DQ4B) (io), AJ17 IO, FPLL_BC_CLKOUT1, FPLL_BC_CLKOUTn, (DIFFIO_TX_B139n, DIFFOUT_B139n, DQ47B, DQ18B, DQ9B, DQ4B) (io), AJ18 IO, (DIFFIO_TX_B129n, DIFFOUT_B129n, DQ43B, DQ16B, DQ8B, DQ4B) (io), AJ19 IO, (DIFFIO_RX_B128p, DIFFOUT_B128p, DQS43B, DQ16B/CQn16B, DQ8B, DQ4B) (io), AK17 IO, FPLL_BC_CLKOUT2, FPLL_BC_FBp, FPLL_BC_FB1, (DIFFIO_RX_B140p, DIFFOUT_B140p, DQS47B, DQ18B/CQn18B, DQ9B, DQS4B/CQ4B) (io), AK18 IO, (DIFFIO_RX_B128n, DIFFOUT_B128n, DQSn43B, DQ16B, DQ8B, DQ4B) (io), AL16 IO, (DIFFIO_TX_B141p, DIFFOUT_B141p, DQ47B, DQ18B, DQ9B, DQ4B) (io), AL17 IO, FPLL_BC_CLKOUT3, FPLL_BC_FBn, (DIFFIO_RX_B140n, DIFFOUT_B140n, DQSn47B, DQ18B, DQ9B, DQSn4B/DQ4B) (io), AL18 IO, (DIFFIO_TX_B133p, DIFFOUT_B133p, DQ45B, DQ17B, DQ8B, DQ4B) (io), AM16 IO, (DIFFIO_TX_B141n, DIFFOUT_B141n, DQ47B, DQ18B, DQ9B, DQ4B) (io), AM17 IO, (DIFFIO_TX_B145p, DIFFOUT_B145p, DQ49B, DQ19B, DQ9B, DQ4B) (io), AM19 IO, (DIFFIO_TX_B133n, DIFFOUT_B133n, DQ45B, DQ17B, DQ8B, DQ4B) (io), AN16 IO, (DIFFIO_RX_B146p, DIFFOUT_B146p, DQS49B, DQ19B/CQn19B, DQS9B/CQ9B, DQ4B) (io), AN17 IO, (DIFFIO_TX_B145n, DIFFOUT_B145n, DQ49B, DQ19B, DQ9B, DQ4B) (io), AN18 IO, (DIFFIO_RX_B134n, DIFFOUT_B134n, DQSn45B, DQ17B, DQSn8B/DQ8B, DQ4B) (io), AN19 IO, (DIFFIO_RX_B134p, DIFFOUT_B134p, DQS45B, DQ17B/CQn17B, DQS8B/CQ8B, DQ4B) (io), AP16 IO, (DIFFIO_RX_B146n, DIFFOUT_B146n, DQSn49B, DQ19B, DQSn9B/DQ9B, DQ4B) (io), AP18 IO, (DIFFIO_TX_B135p, DIFFOUT_B135p, DQ45B, DQ17B, DQ8B, DQ4B) (io), AP19 IO, (DIFFIO_RX_B136p, DIFFOUT_B136p, DQS46B, DQS17B/CQ17B, DQ8B, DQ4B/CQn4B) (io), AR17 IO, (DIFFIO_TX_B147p, DIFFOUT_B147p, DQ49B, DQ19B, DQ9B, DQ4B) (io), AR18 IO, (DIFFIO_TX_B135n, DIFFOUT_B135n, DQ45B, DQ17B, DQ8B, DQ4B) (io), AR19 IO, (DIFFIO_RX_B136n, DIFFOUT_B136n, DQSn46B, DQSn17B/DQ17B, DQ8B, DQ4B) (io), AT17 IO, (DIFFIO_TX_B147n, DIFFOUT_B147n, DQ49B, DQ19B, DQ9B, DQ4B) (io), AT18 IO, (DIFFIO_TX_B137p, DIFFOUT_B137p, DQ46B, DQ17B, DQ8B, DQ4B) (io), AU16 IO, (DIFFIO_RX_B148n, DIFFOUT_B148n, DQSn50B, DQSn19B/DQ19B, DQ9B, DQ4B) (io), AU17 IO, (DIFFIO_RX_B148p, DIFFOUT_B148p, DQS50B, DQS19B/CQ19B, DQ9B, DQ4B) (io), AU18 IO, (DIFFIO_TX_B137n, DIFFOUT_B137n, DQ46B, DQ17B, DQ8B, DQ4B) (io), AV16 IO, (DIFFIO_TX_B149p, DIFFOUT_B149p, DQ50B, DQ19B, DQ9B, DQ4B) (io), AV17 IO, (DIFFIO_RX_B150p, DIFFOUT_B150p, DQ50B, DQ19B, DQ9B, DQ4B) (io), AV19 IO, (DIFFIO_RX_B138p, DIFFOUT_B138p, DQ46B, DQ17B, DQ8B, DQ4B) (io), AW16 IO, (DIFFIO_TX_B149n, DIFFOUT_B149n, DQ50B, DQ19B, DQ9B, DQ4B) (io), AW17 IO, (DIFFIO_RX_B150n, DIFFOUT_B150n, DQ50B, DQ19B, DQ9B, DQ4B) (io), AW19 IO, (DIFFIO_RX_B138n, DIFFOUT_B138n, DQ46B, DQ17B, DQ8B, DQ4B) (io)
part I pins: A7 IO, CLK14n, (DIFFIO_RX_T9n, DIFFOUT_T9n) (io), B7 IO, CLK14p, (DIFFIO_RX_T9p, DIFFOUT_T9p) (io), C7 IO, CLK15n, (DIFFIO_RX_T11n, DIFFOUT_T11n) (io), D7 IO, CLK15p, (DIFFIO_RX_T11p, DIFFOUT_T11p) (io), E7 IO, (DIFFIO_TX_T12n, DIFFOUT_T12n) (io), G6 IO, CLK12n, (DIFFIO_RX_T3n, DIFFOUT_T3n, DQSn1T, DQSn1T/DQ1T) (io), G7 IO, CLK12p, (DIFFIO_RX_T3p, DIFFOUT_T3p, DQS1T, DQS1T/CQ1T) (io), H7 IO, (DIFFIO_RX_T1n, DIFFOUT_T1n, DQ1T, DQ1T) (io), J6 IO, RZQ_4, (DIFFIO_RX_T1p, DIFFOUT_T1p, DQ1T, DQ1T) (io), J7 IO, (DIFFIO_TX_T2p, DIFFOUT_T2p, DQ1T, DQ1T) (io), K6 IO, CLK13n, (DIFFIO_RX_T5n, DIFFOUT_T5n, DQSn2T, DQ1T) (io), K7 IO, (DIFFIO_TX_T2n, DIFFOUT_T2n, DQ1T, DQ1T) (io), L6 IO, CLK13p, (DIFFIO_RX_T5p, DIFFOUT_T5p, DQS2T, DQ1T/CQn1T) (io), M6 IO, (DIFFIO_TX_T4p, DIFFOUT_T4p, DQ2T, DQ1T) (io), N6 IO, (DIFFIO_TX_T4n, DIFFOUT_T4n, DQ2T, DQ1T) (io), N7 IO, (DIFFIO_TX_T6n, DIFFOUT_T6n, DQ2T, DQ1T) (io), P7 IO, (DIFFIO_TX_T6p, DIFFOUT_T6p, DQ2T, DQ1T) (io)
part J pins: A8 IO, (DIFFIO_TX_T16p, DIFFOUT_T16p, DQ6T, DQ3T, DQ2T, DQ1T) (io), A10 IO, (DIFFIO_RX_T29n, DIFFOUT_T29n, DQSn10T, DQ5T, DQSn3T/DQ3T, DQ1T) (io), A11 IO, (DIFFIO_TX_T30n, DIFFOUT_T30n, DQ10T, DQ5T, DQ3T, DQ1T) (io), B8 IO, (DIFFIO_TX_T16n, DIFFOUT_T16n, DQ6T, DQ3T, DQ2T, DQ1T) (io), B10 IO, (DIFFIO_RX_T29p, DIFFOUT_T29p, DQS10T, DQ5T/CQn5T, DQS3T/CQ3T, DQ1T) (io), B11 IO, (DIFFIO_TX_T30p, DIFFOUT_T30p, DQ10T, DQ5T, DQ3T, DQ1T) (io), C8 IO, (DIFFIO_RX_T17p, DIFFOUT_T17p, DQS6T, DQ3T/CQn3T, DQS2T/CQ2T, DQ1T) (io), C9 IO, (DIFFIO_RX_T17n, DIFFOUT_T17n, DQSn6T, DQ3T, DQSn2T/DQ2T, DQ1T) (io), C10 IO, (DIFFIO_TX_T28n, DIFFOUT_T28n, DQ10T, DQ5T, DQ3T, DQ1T) (io), D9 IO, (DIFFIO_TX_T18n, DIFFOUT_T18n, DQ6T, DQ3T, DQ2T, DQ1T) (io), D10 IO, (DIFFIO_TX_T28p, DIFFOUT_T28p, DQ10T, DQ5T, DQ3T, DQ1T) (io), E8 IO, (DIFFIO_RX_T13n, DIFFOUT_T13n, DQ5T, DQ3T, DQ2T, DQ1T) (io), E9 IO, (DIFFIO_TX_T18p, DIFFOUT_T18p, DQ6T, DQ3T, DQ2T, DQ1T) (io), E11 IO, (DIFFIO_RX_T27n, DIFFOUT_T27n, DQSn9T, DQSn5T/DQ5T, DQ3T, DQ1T) (io), F8 IO, (DIFFIO_RX_T13p, DIFFOUT_T13p, DQ5T, DQ3T, DQ2T, DQ1T) (io), F9 IO, (DIFFIO_RX_T15n, DIFFOUT_T15n, DQSn5T, DQSn3T/DQ3T, DQ2T, DQ1T) (io), F11 IO, (DIFFIO_RX_T27p, DIFFOUT_T27p, DQS9T, DQS5T/CQ5T, DQ3T, DQ1T/CQn1T) (io), G8 IO, (DIFFIO_TX_T14n, DIFFOUT_T14n, DQ5T, DQ3T, DQ2T, DQ1T) (io), G9 IO, (DIFFIO_TX_T14p, DIFFOUT_T14p, DQ5T, DQ3T, DQ2T, DQ1T) (io), G10 IO, (DIFFIO_RX_T15p, DIFFOUT_T15p, DQS5T, DQS3T/CQ3T, DQ2T, DQ1T) (io), G11 IO, (DIFFIO_RX_T25n, DIFFOUT_T25n, DQ9T, DQ5T, DQ3T, DQ1T) (io), H10 IO, (DIFFIO_TX_T26n, DIFFOUT_T26n, DQ9T, DQ5T, DQ3T, DQ1T) (io), H11 IO, (DIFFIO_RX_T25p, DIFFOUT_T25p, DQ9T, DQ5T, DQ3T, DQ1T) (io), J9 IO, (DIFFIO_TX_T20n, DIFFOUT_T20n, DQ7T, DQ4T, DQ2T, DQ1T) (io), J10 IO, (DIFFIO_TX_T26p, DIFFOUT_T26p, DQ9T, DQ5T, DQ3T, DQ1T) (io), J11 IO, (DIFFIO_RX_T31n, DIFFOUT_T31n, DQ11T, DQ6T, DQ3T, DQ1T) (io), K9 IO, (DIFFIO_TX_T20p, DIFFOUT_T20p, DQ7T, DQ4T, DQ2T, DQ1T) (io), K10 IO, (DIFFIO_RX_T31p, DIFFOUT_T31p, DQ11T, DQ6T, DQ3T, DQ1T) (io), L8 IO, (DIFFIO_RX_T19n, DIFFOUT_T19n, DQ7T, DQ4T, DQ2T, DQ1T) (io), L9 IO, (DIFFIO_RX_T21n, DIFFOUT_T21n, DQSn7T, DQSn4T/DQ4T, DQ2T, DQ1T) (io), L11 IO, (DIFFIO_RX_T33n, DIFFOUT_T33n, DQSn11T, DQSn6T/DQ6T, DQ3T, DQ1T) (io), M8 IO, (DIFFIO_RX_T19p, DIFFOUT_T19p, DQ7T, DQ4T, DQ2T, DQ1T) (io), M9 IO, (DIFFIO_RX_T21p, DIFFOUT_T21p, DQS7T, DQS4T/CQ4T, DQ2T/CQn2T, DQ1T) (io), M11 IO, (DIFFIO_RX_T33p, DIFFOUT_T33p, DQS11T, DQS6T/CQ6T, DQ3T/CQn3T, DQ1T) (io), N8 IO, (DIFFIO_TX_T22p, DIFFOUT_T22p, DQ8T, DQ4T, DQ2T, DQ1T) (io), N9 IO, (DIFFIO_TX_T22n, DIFFOUT_T22n, DQ8T, DQ4T, DQ2T, DQ1T) (io), N10 IO, (DIFFIO_TX_T32n, DIFFOUT_T32n, DQ11T, DQ6T, DQ3T, DQ1T) (io), P8 IO, (DIFFIO_TX_T24n, DIFFOUT_T24n, DQ8T, DQ4T, DQ2T, DQ1T) (io), P10 IO, (DIFFIO_TX_T32p, DIFFOUT_T32p, DQ11T, DQ6T, DQ3T, DQ1T) (io), P11 IO, (DIFFIO_RX_T35n, DIFFOUT_T35n, DQSn12T, DQ6T, DQ3T, DQ1T) (io), R8 IO, (DIFFIO_TX_T24p, DIFFOUT_T24p, DQ8T, DQ4T, DQ2T, DQ1T) (io), R9 IO, (DIFFIO_RX_T23n, DIFFOUT_T23n, DQSn8T, DQ4T, DQ2T, DQSn1T/DQ1T) (io), R10 IO, (DIFFIO_TX_T34n, DIFFOUT_T34n, DQ12T, DQ6T, DQ3T, DQ1T) (io), R11 IO, (DIFFIO_RX_T35p, DIFFOUT_T35p, DQS12T, DQ6T/CQn6T, DQ3T, DQ1T) (io), T9 IO, (DIFFIO_RX_T23p, DIFFOUT_T23p, DQS8T, DQ4T/CQn4T, DQ2T, DQS1T/CQ1T) (io), T10 IO, (DIFFIO_TX_T34p, DIFFOUT_T34p, DQ12T, DQ6T, DQ3T, DQ1T) (io), U9 IO, (DIFFIO_TX_T36n, DIFFOUT_T36n, DQ12T, DQ6T, DQ3T, DQ1T) (io), U10 IO, (DIFFIO_TX_T36p, DIFFOUT_T36p, DQ12T, DQ6T, DQ3T, DQ1T) (io)
part K pins: A13 IO, (DIFFIO_RX_T37n, DIFFOUT_T37n, DQ13T, DQ7T, DQ4T, DQ2T) (io), A14 IO, (DIFFIO_TX_T50n, DIFFOUT_T50n, DQ17T, DQ9T, DQ5T, DQ2T) (io), B13 IO, (DIFFIO_RX_T37p, DIFFOUT_T37p, DQ13T, DQ7T, DQ4T, DQ2T) (io), B14 IO, (DIFFIO_TX_T50p, DIFFOUT_T50p, DQ17T, DQ9T, DQ5T, DQ2T) (io), C12 IO, (DIFFIO_TX_T38n, DIFFOUT_T38n, DQ13T, DQ7T, DQ4T, DQ2T) (io), C13 IO, (DIFFIO_RX_T39n, DIFFOUT_T39n, DQSn13T, DQSn7T/DQ7T, DQ4T, DQ2T) (io), C14 IO, (DIFFIO_RX_T49p, DIFFOUT_T49p, DQ17T, DQ9T, DQ5T, DQ2T) (io), C15 IO, (DIFFIO_RX_T49n, DIFFOUT_T49n, DQ17T, DQ9T, DQ5T, DQ2T) (io), D12 IO, (DIFFIO_TX_T38p, DIFFOUT_T38p, DQ13T, DQ7T, DQ4T, DQ2T) (io), D13 IO, (DIFFIO_RX_T39p, DIFFOUT_T39p, DQS13T, DQS7T/CQ7T, DQ4T, DQ2T) (io), D15 IO, (DIFFIO_RX_T51n, DIFFOUT_T51n, DQSn17T, DQSn9T/DQ9T, DQ5T, DQ2T) (io), E12 IO, (DIFFIO_RX_T41n, DIFFOUT_T41n, DQSn14T, DQ7T, DQSn4T/DQ4T, DQ2T) (io), E14 IO, (DIFFIO_TX_T52n, DIFFOUT_T52n, DQ18T, DQ9T, DQ5T, DQ2T) (io), E15 IO, (DIFFIO_RX_T51p, DIFFOUT_T51p, DQS17T, DQS9T/CQ9T, DQ5T, DQ2T/CQn2T) (io), F12 IO, (DIFFIO_RX_T41p, DIFFOUT_T41p, DQS14T, DQ7T/CQn7T, DQS4T/CQ4T, DQ2T) (io), F14 IO, (DIFFIO_TX_T52p, DIFFOUT_T52p, DQ18T, DQ9T, DQ5T, DQ2T) (io), F15 IO, (DIFFIO_RX_T53n, DIFFOUT_T53n, DQSn18T, DQ9T, DQSn5T/DQ5T, DQ2T) (io), G12 IO, (DIFFIO_TX_T40p, DIFFOUT_T40p, DQ14T, DQ7T, DQ4T, DQ2T) (io), G13 IO, (DIFFIO_TX_T40n, DIFFOUT_T40n, DQ14T, DQ7T, DQ4T, DQ2T) (io), G14 IO, (DIFFIO_TX_T54n, DIFFOUT_T54n, DQ18T, DQ9T, DQ5T, DQ2T) (io), G15 IO, (DIFFIO_RX_T53p, DIFFOUT_T53p, DQS18T, DQ9T/CQn9T, DQS5T/CQ5T, DQ2T) (io), H13 IO, (DIFFIO_TX_T42n, DIFFOUT_T42n, DQ14T, DQ7T, DQ4T, DQ2T) (io), H14 IO, (DIFFIO_TX_T54p, DIFFOUT_T54p, DQ18T, DQ9T, DQ5T, DQ2T) (io), J12 IO, (DIFFIO_TX_T44n, DIFFOUT_T44n, DQ15T, DQ8T, DQ4T, DQ2T) (io), J13 IO, (DIFFIO_TX_T42p, DIFFOUT_T42p, DQ14T, DQ7T, DQ4T, DQ2T) (io), J14 IO, (DIFFIO_RX_T59p, DIFFOUT_T59p, DQS20T, DQ10T/CQn10T, DQ5T, DQ2T) (io), J15 IO, (DIFFIO_RX_T59n, DIFFOUT_T59n, DQSn20T, DQ10T, DQ5T, DQ2T) (io), K12 IO, (DIFFIO_TX_T44p, DIFFOUT_T44p, DQ15T, DQ8T, DQ4T, DQ2T) (io), K13 IO, (DIFFIO_RX_T45n, DIFFOUT_T45n, DQSn15T, DQSn8T/DQ8T, DQ4T, DQ2T) (io), K15 IO, (DIFFIO_TX_T60n, DIFFOUT_T60n, DQ20T, DQ10T, DQ5T, DQ2T) (io), L12 IO, (DIFFIO_RX_T43n, DIFFOUT_T43n, DQ15T, DQ8T, DQ4T, DQ2T) (io), L13 IO, (DIFFIO_RX_T45p, DIFFOUT_T45p, DQS15T, DQS8T/CQ8T, DQ4T/CQn4T, DQ2T) (io), L15 IO, (DIFFIO_TX_T60p, DIFFOUT_T60p, DQ20T, DQ10T, DQ5T, DQ2T) (io), M12 IO, (DIFFIO_RX_T43p, DIFFOUT_T43p, DQ15T, DQ8T, DQ4T, DQ2T) (io), M14 IO, (DIFFIO_TX_T58n, DIFFOUT_T58n, DQ20T, DQ10T, DQ5T, DQ2T) (io), N12 IO, (DIFFIO_TX_T46n, DIFFOUT_T46n, DQ16T, DQ8T, DQ4T, DQ2T) (io), N13 IO, (DIFFIO_TX_T46p, DIFFOUT_T46p, DQ16T, DQ8T, DQ4T, DQ2T) (io), N14 IO, (DIFFIO_TX_T58p, DIFFOUT_T58p, DQ20T, DQ10T, DQ5T, DQ2T) (io), P13 IO, (DIFFIO_TX_T48n, DIFFOUT_T48n, DQ16T, DQ8T, DQ4T, DQ2T) (io), P14 IO, (DIFFIO_RX_T57n, DIFFOUT_T57n, DQSn19T, DQSn10T/DQ10T, DQ5T, DQ2T) (io), R12 IO, (DIFFIO_TX_T48p, DIFFOUT_T48p, DQ16T, DQ8T, DQ4T, DQ2T) (io), R14 IO, (DIFFIO_RX_T57p, DIFFOUT_T57p, DQS19T, DQS10T/CQ10T, DQ5T/CQn5T, DQ2T) (io), T12 IO, (DIFFIO_RX_T47n, DIFFOUT_T47n, DQSn16T, DQ8T, DQ4T, DQSn2T/DQ2T) (io), T13 IO, (DIFFIO_TX_T56p, DIFFOUT_T56p, DQ19T, DQ10T, DQ5T, DQ2T) (io), U11 IO, (DIFFIO_RX_T47p, DIFFOUT_T47p, DQS16T, DQ8T/CQn8T, DQ4T, DQS2T/CQ2T) (io), U12 IO, (DIFFIO_RX_T55n, DIFFOUT_T55n, DQ19T, DQ10T, DQ5T, DQ2T) (io), U13 IO, (DIFFIO_RX_T55p, DIFFOUT_T55p, DQ19T, DQ10T, DQ5T, DQ2T) (io), U14 IO, (DIFFIO_TX_T56n, DIFFOUT_T56n, DQ19T, DQ10T, DQ5T, DQ2T) (io)
part L pins: A16 IO, (DIFFIO_TX_T62n, DIFFOUT_T62n, DQ21T, DQ11T, DQ6T, DQ3T) (io), A17 IO, (DIFFIO_RX_T61n, DIFFOUT_T61n, DQ21T, DQ11T, DQ6T, DQ3T) (io), A19 IO, (DIFFIO_RX_T73n, DIFFOUT_T73n, DQ25T, DQ13T, DQ7T, DQ3T) (io), B16 IO, (DIFFIO_TX_T62p, DIFFOUT_T62p, DQ21T, DQ11T, DQ6T, DQ3T) (io), B17 IO, (DIFFIO_RX_T61p, DIFFOUT_T61p, DQ21T, DQ11T, DQ6T, DQ3T) (io), B19 IO, (DIFFIO_RX_T73p, DIFFOUT_T73p, DQ25T, DQ13T, DQ7T, DQ3T) (io), C16 IO, (DIFFIO_RX_T63n, DIFFOUT_T63n, DQSn21T, DQSn11T/DQ11T, DQ6T, DQ3T) (io), C18 IO, (DIFFIO_TX_T74n, DIFFOUT_T74n, DQ25T, DQ13T, DQ7T, DQ3T) (io), C19 IO, (DIFFIO_RX_T75n, DIFFOUT_T75n, DQSn25T, DQSn13T/DQ13T, DQ7T, DQ3T) (io), D16 IO, (DIFFIO_RX_T63p, DIFFOUT_T63p, DQS21T, DQS11T/CQ11T, DQ6T, DQ3T) (io), D18 IO, (DIFFIO_TX_T74p, DIFFOUT_T74p, DQ25T, DQ13T, DQ7T, DQ3T) (io), D19 IO, (DIFFIO_RX_T75p, DIFFOUT_T75p, DQS25T, DQS13T/CQ13T, DQ7T, DQ3T/CQn3T) (io), E17 IO, (DIFFIO_TX_T64n, DIFFOUT_T64n, DQ22T, DQ11T, DQ6T, DQ3T) (io), E18 IO, (DIFFIO_TX_T76p, DIFFOUT_T76p, DQ26T, DQ13T, DQ7T, DQ3T) (io), E19 IO, (DIFFIO_TX_T76n, DIFFOUT_T76n, DQ26T, DQ13T, DQ7T, DQ3T) (io), F17 IO, (DIFFIO_TX_T64p, DIFFOUT_T64p, DQ22T, DQ11T, DQ6T, DQ3T) (io), F18 IO, (DIFFIO_RX_T77n, DIFFOUT_T77n, DQSn26T, DQ13T, DQSn7T/DQ7T, DQ3T) (io), G16 IO, (DIFFIO_RX_T65n, DIFFOUT_T65n, DQSn22T, DQ11T, DQSn6T/DQ6T, DQ3T) (io), G17 IO, (DIFFIO_TX_T66n, DIFFOUT_T66n, DQ22T, DQ11T, DQ6T, DQ3T) (io), G18 IO, (DIFFIO_RX_T77p, DIFFOUT_T77p, DQS26T, DQ13T/CQn13T, DQS7T/CQ7T, DQ3T) (io), G19 IO, (DIFFIO_TX_T78n, DIFFOUT_T78n, DQ26T, DQ13T, DQ7T, DQ3T) (io), H16 IO, (DIFFIO_RX_T65p, DIFFOUT_T65p, DQS22T, DQ11T/CQn11T, DQS6T/CQ6T, DQ3T) (io), H17 IO, (DIFFIO_TX_T66p, DIFFOUT_T66p, DQ22T, DQ11T, DQ6T, DQ3T) (io), H19 IO, (DIFFIO_TX_T78p, DIFFOUT_T78p, DQ26T, DQ13T, DQ7T, DQ3T) (io), J16 IO, FPLL_TC_CLKOUT2, FPLL_TC_FBp, FPLL_TC_FB1, (DIFFIO_RX_T71p, DIFFOUT_T71p, DQS24T, DQ12T/CQn12T, DQ6T, DQS3T/CQ3T) (io), J17 IO, FPLL_TC_CLKOUT3, FPLL_TC_FBn, (DIFFIO_RX_T71n, DIFFOUT_T71n, DQSn24T, DQ12T, DQ6T, DQSn3T/DQ3T) (io), J18 IO, (DIFFIO_RX_T83n, DIFFOUT_T83n, DQSn28T, DQ14T, DQ7T, DQ3T) (io), K16 IO, FPLL_TC_CLKOUT1, FPLL_TC_CLKOUTn, (DIFFIO_TX_T72n, DIFFOUT_T72n, DQ24T, DQ12T, DQ6T, DQ3T) (io), K18 IO, (DIFFIO_RX_T83p, DIFFOUT_T83p, DQS28T, DQ14T/CQn14T, DQ7T, DQ3T) (io), K19 IO, (DIFFIO_TX_T84p, DIFFOUT_T84p, DQ28T, DQ14T, DQ7T, DQ3T) (io), L16 IO, FPLL_TC_CLKOUT0, FPLL_TC_CLKOUTp, FPLL_TC_FB0, (DIFFIO_TX_T72p, DIFFOUT_T72p, DQ24T, DQ12T, DQ6T, DQ3T) (io), L18 IO, (DIFFIO_TX_T82n, DIFFOUT_T82n, DQ28T, DQ14T, DQ7T, DQ3T) (io), L19 IO, (DIFFIO_TX_T84n, DIFFOUT_T84n, DQ28T, DQ14T, DQ7T, DQ3T) (io), M15 IO, (DIFFIO_TX_T70n, DIFFOUT_T70n, DQ24T, DQ12T, DQ6T, DQ3T) (io), M17 IO, (DIFFIO_RX_T79n, DIFFOUT_T79n, DQ27T, DQ14T, DQ7T, DQ3T) (io), M18 IO, (DIFFIO_TX_T82p, DIFFOUT_T82p, DQ28T, DQ14T, DQ7T, DQ3T) (io), N15 IO, (DIFFIO_TX_T70p, DIFFOUT_T70p, DQ24T, DQ12T, DQ6T, DQ3T) (io), N16 IO, CLK18n, (DIFFIO_RX_T69n, DIFFOUT_T69n, DQSn23T, DQSn12T/DQ12T, DQ6T, DQ3T) (io), N17 IO, (DIFFIO_RX_T79p, DIFFOUT_T79p, DQ27T, DQ14T, DQ7T, DQ3T) (io), N18 IO, (DIFFIO_RX_T81p, DIFFOUT_T81p, DQS27T, DQS14T/CQ14T, DQ7T/CQn7T, DQ3T) (io), N19 IO, (DIFFIO_RX_T81n, DIFFOUT_T81n, DQSn27T, DQSn14T/DQ14T, DQ7T, DQ3T) (io), P16 IO, CLK18p, (DIFFIO_RX_T69p, DIFFOUT_T69p, DQS23T, DQS12T/CQ12T, DQ6T/CQn6T, DQ3T) (io), P17 IO, (DIFFIO_TX_T80n, DIFFOUT_T80n, DQ27T, DQ14T, DQ7T, DQ3T) (io), R15 IO, (DIFFIO_TX_T68n, DIFFOUT_T68n, DQ23T, DQ12T, DQ6T, DQ3T) (io), R16 IO, (DIFFIO_TX_T80p, DIFFOUT_T80p, DQ27T, DQ14T, DQ7T, DQ3T) (io), T15 IO, (DIFFIO_TX_T68p, DIFFOUT_T68p, DQ23T, DQ12T, DQ6T, DQ3T) (io), T16 IO, CLK19n, (DIFFIO_RX_T67n, DIFFOUT_T67n, DQ23T, DQ12T, DQ6T, DQ3T) (io), U15 IO, CLK19p, (DIFFIO_RX_T67p, DIFFOUT_T67p, DQ23T, DQ12T, DQ6T, DQ3T) (io)
part M pins: A32 IO, (DIFFIO_TX_T200n, DIFFOUT_T200n) (io), A34 IO, (DIFFIO_TX_T202p, DIFFOUT_T202p) (io), B32 IO, (DIFFIO_TX_T200p, DIFFOUT_T200p) (io), B34 IO, RZQ_5, (DIFFIO_RX_T203n, DIFFOUT_T203n) (io), C33 IO, CLK21n, (DIFFIO_RX_T199n, DIFFOUT_T199n) (io), D33 IO, CLK21p, (DIFFIO_RX_T199p, DIFFOUT_T199p) (io), E34 IO, CLK20p, (DIFFIO_RX_T201p, DIFFOUT_T201p) (io), G34 IO, (DIFFIO_RX_T209n, DIFFOUT_T209n) (io), K34 IO, (DIFFIO_TX_T210p, DIFFOUT_T210p) (io), L33 IO, FPLL_TL_CLKOUT2, FPLL_TL_FBp, FPLL_TL_FB1, (DIFFIO_RX_T197p, DIFFOUT_T197p, DQS66T, DQ27T/CQn27T) (io), L34 IO, FPLL_TL_CLKOUT3, FPLL_TL_FBn, (DIFFIO_RX_T197n, DIFFOUT_T197n, DQSn66T, DQ27T) (io), M32 IO, CLK22n, (DIFFIO_RX_T195n, DIFFOUT_T195n, DQSn65T, DQSn27T/DQ27T) (io), M33 IO, (DIFFIO_TX_T196n, DIFFOUT_T196n, DQ66T, DQ27T) (io), N32 IO, CLK22p, (DIFFIO_RX_T195p, DIFFOUT_T195p, DQS65T, DQS27T/CQ27T) (io), N33 IO, (DIFFIO_TX_T196p, DIFFOUT_T196p, DQ66T, DQ27T) (io), N34 IO, FPLL_TL_CLKOUT1, FPLL_TL_CLKOUTn, (DIFFIO_TX_T198n, DIFFOUT_T198n, DQ66T, DQ27T) (io), P32 IO, CLK23n, (DIFFIO_RX_T193n, DIFFOUT_T193n, DQ65T, DQ27T) (io), P34 IO, FPLL_TL_CLKOUT0, FPLL_TL_CLKOUTp, FPLL_TL_FB0, (DIFFIO_TX_T198p, DIFFOUT_T198p, DQ66T, DQ27T) (io), R32 IO, CLK23p, (DIFFIO_RX_T193p, DIFFOUT_T193p, DQ65T, DQ27T) (io), T31 IO, (DIFFIO_TX_T194n, DIFFOUT_T194n, DQ65T, DQ27T) (io), U31 IO, (DIFFIO_TX_T194p, DIFFOUT_T194p, DQ65T, DQ27T) (io)
part N pins: A28 IO, (DIFFIO_RX_T179n, DIFFOUT_T179n, DQSn60T, DQ24T, DQ12T, DQSn6T/DQ6T) (io), A29 IO, (DIFFIO_TX_T180n, DIFFOUT_T180n, DQ60T, DQ24T, DQ12T, DQ6T) (io), A31 IO, (DIFFIO_RX_T187n, DIFFOUT_T187n, DQ63T, DQ26T, DQ13T, DQ6T) (io), B28 IO, (DIFFIO_RX_T179p, DIFFOUT_T179p, DQS60T, DQ24T/CQn24T, DQ12T, DQS6T/CQ6T) (io), B29 IO, (DIFFIO_TX_T180p, DIFFOUT_T180p, DQ60T, DQ24T, DQ12T, DQ6T) (io), B31 IO, (DIFFIO_RX_T187p, DIFFOUT_T187p, DQ63T, DQ26T, DQ13T, DQ6T) (io), C28 IO, (DIFFIO_TX_T178n, DIFFOUT_T178n, DQ60T, DQ24T, DQ12T, DQ6T) (io), C30 IO, (DIFFIO_TX_T188n, DIFFOUT_T188n, DQ63T, DQ26T, DQ13T, DQ6T) (io), C31 IO, (DIFFIO_RX_T189n, DIFFOUT_T189n, DQSn63T, DQSn26T/DQ26T, DQ13T, DQ6T) (io), D28 IO, (DIFFIO_TX_T178p, DIFFOUT_T178p, DQ60T, DQ24T, DQ12T, DQ6T) (io), D30 IO, (DIFFIO_TX_T188p, DIFFOUT_T188p, DQ63T, DQ26T, DQ13T, DQ6T) (io), D31 IO, (DIFFIO_RX_T189p, DIFFOUT_T189p, DQS63T, DQS26T/CQ26T, DQ13T/CQn13T, DQ6T) (io), E28 IO, (DIFFIO_RX_T175n, DIFFOUT_T175n, DQ59T, DQ24T, DQ12T, DQ6T) (io), E30 IO, (DIFFIO_RX_T191p, DIFFOUT_T191p, DQS64T, DQ26T/CQn26T, DQ13T, DQ6T) (io), E31 IO, (DIFFIO_RX_T191n, DIFFOUT_T191n, DQSn64T, DQ26T, DQ13T, DQ6T) (io), F29 IO, (DIFFIO_RX_T175p, DIFFOUT_T175p, DQ59T, DQ24T, DQ12T, DQ6T) (io), F30 IO, (DIFFIO_TX_T190n, DIFFOUT_T190n, DQ64T, DQ26T, DQ13T, DQ6T) (io), G28 IO, (DIFFIO_TX_T176n, DIFFOUT_T176n, DQ59T, DQ24T, DQ12T, DQ6T) (io), G29 IO, (DIFFIO_RX_T177n, DIFFOUT_T177n, DQSn59T, DQSn24T/DQ24T, DQ12T, DQ6T) (io), G30 IO, (DIFFIO_TX_T190p, DIFFOUT_T190p, DQ64T, DQ26T, DQ13T, DQ6T) (io), G31 IO, (DIFFIO_TX_T192n, DIFFOUT_T192n, DQ64T, DQ26T, DQ13T, DQ6T) (io), H28 IO, (DIFFIO_TX_T176p, DIFFOUT_T176p, DQ59T, DQ24T, DQ12T, DQ6T) (io), H29 IO, (DIFFIO_RX_T177p, DIFFOUT_T177p, DQS59T, DQS24T/CQ24T, DQ12T/CQn12T, DQ6T) (io), H31 IO, (DIFFIO_TX_T192p, DIFFOUT_T192p, DQ64T, DQ26T, DQ13T, DQ6T) (io), J28 IO, (DIFFIO_RX_T173n, DIFFOUT_T173n, DQSn58T, DQ23T, DQSn12T/DQ12T, DQ6T) (io), J29 IO, (DIFFIO_RX_T173p, DIFFOUT_T173p, DQS58T, DQ23T/CQn23T, DQS12T/CQ12T, DQ6T) (io), J30 IO, (DIFFIO_RX_T185n, DIFFOUT_T185n, DQSn62T, DQ25T, DQSn13T/DQ13T, DQ6T) (io), J31 IO, (DIFFIO_TX_T186n, DIFFOUT_T186n, DQ62T, DQ25T, DQ13T, DQ6T) (io), K28 IO, (DIFFIO_TX_T174n, DIFFOUT_T174n, DQ58T, DQ23T, DQ12T, DQ6T) (io), K30 IO, (DIFFIO_RX_T185p, DIFFOUT_T185p, DQS62T, DQ25T/CQn25T, DQS13T/CQ13T, DQ6T) (io), K31 IO, (DIFFIO_TX_T186p, DIFFOUT_T186p, DQ62T, DQ25T, DQ13T, DQ6T) (io), L28 IO, (DIFFIO_TX_T174p, DIFFOUT_T174p, DQ58T, DQ23T, DQ12T, DQ6T) (io), L30 IO, (DIFFIO_TX_T184n, DIFFOUT_T184n, DQ62T, DQ25T, DQ13T, DQ6T) (io), L31 IO, (DIFFIO_TX_T184p, DIFFOUT_T184p, DQ62T, DQ25T, DQ13T, DQ6T) (io), M29 IO, (DIFFIO_TX_T172n, DIFFOUT_T172n, DQ58T, DQ23T, DQ12T, DQ6T) (io), M30 IO, (DIFFIO_RX_T181n, DIFFOUT_T181n, DQ61T, DQ25T, DQ13T, DQ6T) (io), N28 IO, (DIFFIO_TX_T172p, DIFFOUT_T172p, DQ58T, DQ23T, DQ12T, DQ6T) (io), N30 IO, (DIFFIO_RX_T181p, DIFFOUT_T181p, DQ61T, DQ25T, DQ13T, DQ6T) (io), N31 IO, (DIFFIO_RX_T183n, DIFFOUT_T183n, DQSn61T, DQSn25T/DQ25T, DQ13T, DQ6T) (io), P29 IO, (DIFFIO_TX_T170n, DIFFOUT_T170n, DQ57T, DQ23T, DQ12T, DQ6T) (io), P31 IO, (DIFFIO_RX_T183p, DIFFOUT_T183p, DQS61T, DQS25T/CQ25T, DQ13T, DQ6T/CQn6T) (io), R29 IO, (DIFFIO_TX_T170p, DIFFOUT_T170p, DQ57T, DQ23T, DQ12T, DQ6T) (io), R30 IO, (DIFFIO_TX_T182p, DIFFOUT_T182p, DQ61T, DQ25T, DQ13T, DQ6T) (io), R31 IO, (DIFFIO_TX_T182n, DIFFOUT_T182n, DQ61T, DQ25T, DQ13T, DQ6T) (io), T30 IO, (DIFFIO_RX_T171n, DIFFOUT_T171n, DQSn57T, DQSn23T/DQ23T, DQ12T, DQ6T) (io), U29 IO, (DIFFIO_RX_T169n, DIFFOUT_T169n, DQ57T, DQ23T, DQ12T, DQ6T) (io), U30 IO, (DIFFIO_RX_T171p, DIFFOUT_T171p, DQS57T, DQS23T/CQ23T, DQ12T, DQ6T) (io), V29 IO, (DIFFIO_RX_T169p, DIFFOUT_T169p, DQ57T, DQ23T, DQ12T, DQ6T) (io)
part O pins: A25 IO, (DIFFIO_TX_T156n, DIFFOUT_T156n, DQ52T, DQ20T, DQ10T, DQ5T) (io), A26 IO, (DIFFIO_RX_T167n, DIFFOUT_T167n, DQSn56T, DQ22T, DQ11T, DQ5T) (io), B25 IO, (DIFFIO_TX_T156p, DIFFOUT_T156p, DQ52T, DQ20T, DQ10T, DQ5T) (io), B26 IO, (DIFFIO_RX_T167p, DIFFOUT_T167p, DQS56T, DQ22T/CQn22T, DQ11T, DQ5T) (io), C24 IO, (DIFFIO_TX_T154n, DIFFOUT_T154n, DQ52T, DQ20T, DQ10T, DQ5T) (io), C25 IO, (DIFFIO_RX_T155n, DIFFOUT_T155n, DQSn52T, DQ20T, DQ10T, DQSn5T/DQ5T) (io), C26 IO, (DIFFIO_TX_T168p, DIFFOUT_T168p, DQ56T, DQ22T, DQ11T, DQ5T) (io), C27 IO, (DIFFIO_TX_T168n, DIFFOUT_T168n, DQ56T, DQ22T, DQ11T, DQ5T) (io), D24 IO, (DIFFIO_TX_T154p, DIFFOUT_T154p, DQ52T, DQ20T, DQ10T, DQ5T) (io), D25 IO, (DIFFIO_RX_T155p, DIFFOUT_T155p, DQS52T, DQ20T/CQn20T, DQ10T, DQS5T/CQ5T) (io), D27 IO, (DIFFIO_TX_T166n, DIFFOUT_T166n, DQ56T, DQ22T, DQ11T, DQ5T) (io), E24 IO, (DIFFIO_RX_T153p, DIFFOUT_T153p, DQS51T, DQS20T/CQ20T, DQ10T/CQn10T, DQ5T) (io), E25 IO, (DIFFIO_RX_T153n, DIFFOUT_T153n, DQSn51T, DQSn20T/DQ20T, DQ10T, DQ5T) (io), E27 IO, (DIFFIO_TX_T166p, DIFFOUT_T166p, DQ56T, DQ22T, DQ11T, DQ5T) (io), F24 IO, (DIFFIO_RX_T151n, DIFFOUT_T151n, DQ51T, DQ20T, DQ10T, DQ5T) (io), F26 IO, (DIFFIO_RX_T163n, DIFFOUT_T163n, DQ55T, DQ22T, DQ11T, DQ5T) (io), F27 IO, (DIFFIO_RX_T165n, DIFFOUT_T165n, DQSn55T, DQSn22T/DQ22T, DQ11T, DQ5T) (io), G24 IO, (DIFFIO_RX_T151p, DIFFOUT_T151p, DQ51T, DQ20T, DQ10T, DQ5T) (io), G25 IO, (DIFFIO_TX_T152n, DIFFOUT_T152n, DQ51T, DQ20T, DQ10T, DQ5T) (io), G26 IO, (DIFFIO_RX_T163p, DIFFOUT_T163p, DQ55T, DQ22T, DQ11T, DQ5T) (io), G27 IO, (DIFFIO_RX_T165p, DIFFOUT_T165p, DQS55T, DQS22T/CQ22T, DQ11T/CQn11T, DQ5T) (io), H25 IO, (DIFFIO_TX_T152p, DIFFOUT_T152p, DQ51T, DQ20T, DQ10T, DQ5T) (io), H26 IO, (DIFFIO_TX_T164n, DIFFOUT_T164n, DQ55T, DQ22T, DQ11T, DQ5T) (io), J25 IO, (DIFFIO_TX_T150n, DIFFOUT_T150n, DQ50T, DQ19T, DQ10T, DQ5T) (io), J26 IO, (DIFFIO_TX_T164p, DIFFOUT_T164p, DQ55T, DQ22T, DQ11T, DQ5T) (io), J27 IO, (DIFFIO_RX_T161n, DIFFOUT_T161n, DQSn54T, DQ21T, DQSn11T/DQ11T, DQ5T) (io), K25 IO, (DIFFIO_TX_T150p, DIFFOUT_T150p, DQ50T, DQ19T, DQ10T, DQ5T) (io), K27 IO, (DIFFIO_RX_T161p, DIFFOUT_T161p, DQS54T, DQ21T/CQn21T, DQS11T/CQ11T, DQ5T) (io), L26 IO, (DIFFIO_RX_T149n, DIFFOUT_T149n, DQSn50T, DQ19T, DQSn10T/DQ10T, DQ5T) (io), L27 IO, (DIFFIO_TX_T162n, DIFFOUT_T162n, DQ54T, DQ21T, DQ11T, DQ5T) (io), M26 IO, (DIFFIO_RX_T149p, DIFFOUT_T149p, DQS50T, DQ19T/CQn19T, DQS10T/CQ10T, DQ5T) (io), M27 IO, (DIFFIO_TX_T162p, DIFFOUT_T162p, DQ54T, DQ21T, DQ11T, DQ5T) (io), N25 IO, (DIFFIO_RX_T145n, DIFFOUT_T145n, DQ49T, DQ19T, DQ10T, DQ5T) (io), N26 IO, (DIFFIO_TX_T148n, DIFFOUT_T148n, DQ50T, DQ19T, DQ10T, DQ5T) (io), N27 IO, (DIFFIO_TX_T160p, DIFFOUT_T160p, DQ54T, DQ21T, DQ11T, DQ5T) (io), P25 IO, (DIFFIO_RX_T145p, DIFFOUT_T145p, DQ49T, DQ19T, DQ10T, DQ5T) (io), P26 IO, (DIFFIO_TX_T148p, DIFFOUT_T148p, DQ50T, DQ19T, DQ10T, DQ5T) (io), P28 IO, (DIFFIO_TX_T160n, DIFFOUT_T160n, DQ54T, DQ21T, DQ11T, DQ5T) (io), R25 IO, (DIFFIO_RX_T147p, DIFFOUT_T147p, DQS49T, DQS19T/CQ19T, DQ10T, DQ5T) (io), R26 IO, (DIFFIO_RX_T147n, DIFFOUT_T147n, DQSn49T, DQSn19T/DQ19T, DQ10T, DQ5T) (io), R27 IO, (DIFFIO_TX_T158n, DIFFOUT_T158n, DQ53T, DQ21T, DQ11T, DQ5T) (io), T25 IO, (DIFFIO_TX_T146n, DIFFOUT_T146n, DQ49T, DQ19T, DQ10T, DQ5T) (io), T27 IO, (DIFFIO_TX_T158p, DIFFOUT_T158p, DQ53T, DQ21T, DQ11T, DQ5T) (io), T28 IO, (DIFFIO_RX_T159n, DIFFOUT_T159n, DQSn53T, DQSn21T/DQ21T, DQ11T, DQ5T) (io), U25 IO, (DIFFIO_TX_T146p, DIFFOUT_T146p, DQ49T, DQ19T, DQ10T, DQ5T) (io), U26 IO, (DIFFIO_RX_T157p, DIFFOUT_T157p, DQ53T, DQ21T, DQ11T, DQ5T) (io), U27 IO, (DIFFIO_RX_T157n, DIFFOUT_T157n, DQ53T, DQ21T, DQ11T, DQ5T) (io), U28 IO, (DIFFIO_RX_T159p, DIFFOUT_T159p, DQS53T, DQS21T/CQ21T, DQ11T, DQ5T/CQn5T) (io)